# Altium schematic symbol library FPGA_Xilinx_Spartan6.SchLib: 45 symbols (part 1 of 8)
Pins are listed as number, name and electrical type; pins without a type are passive.

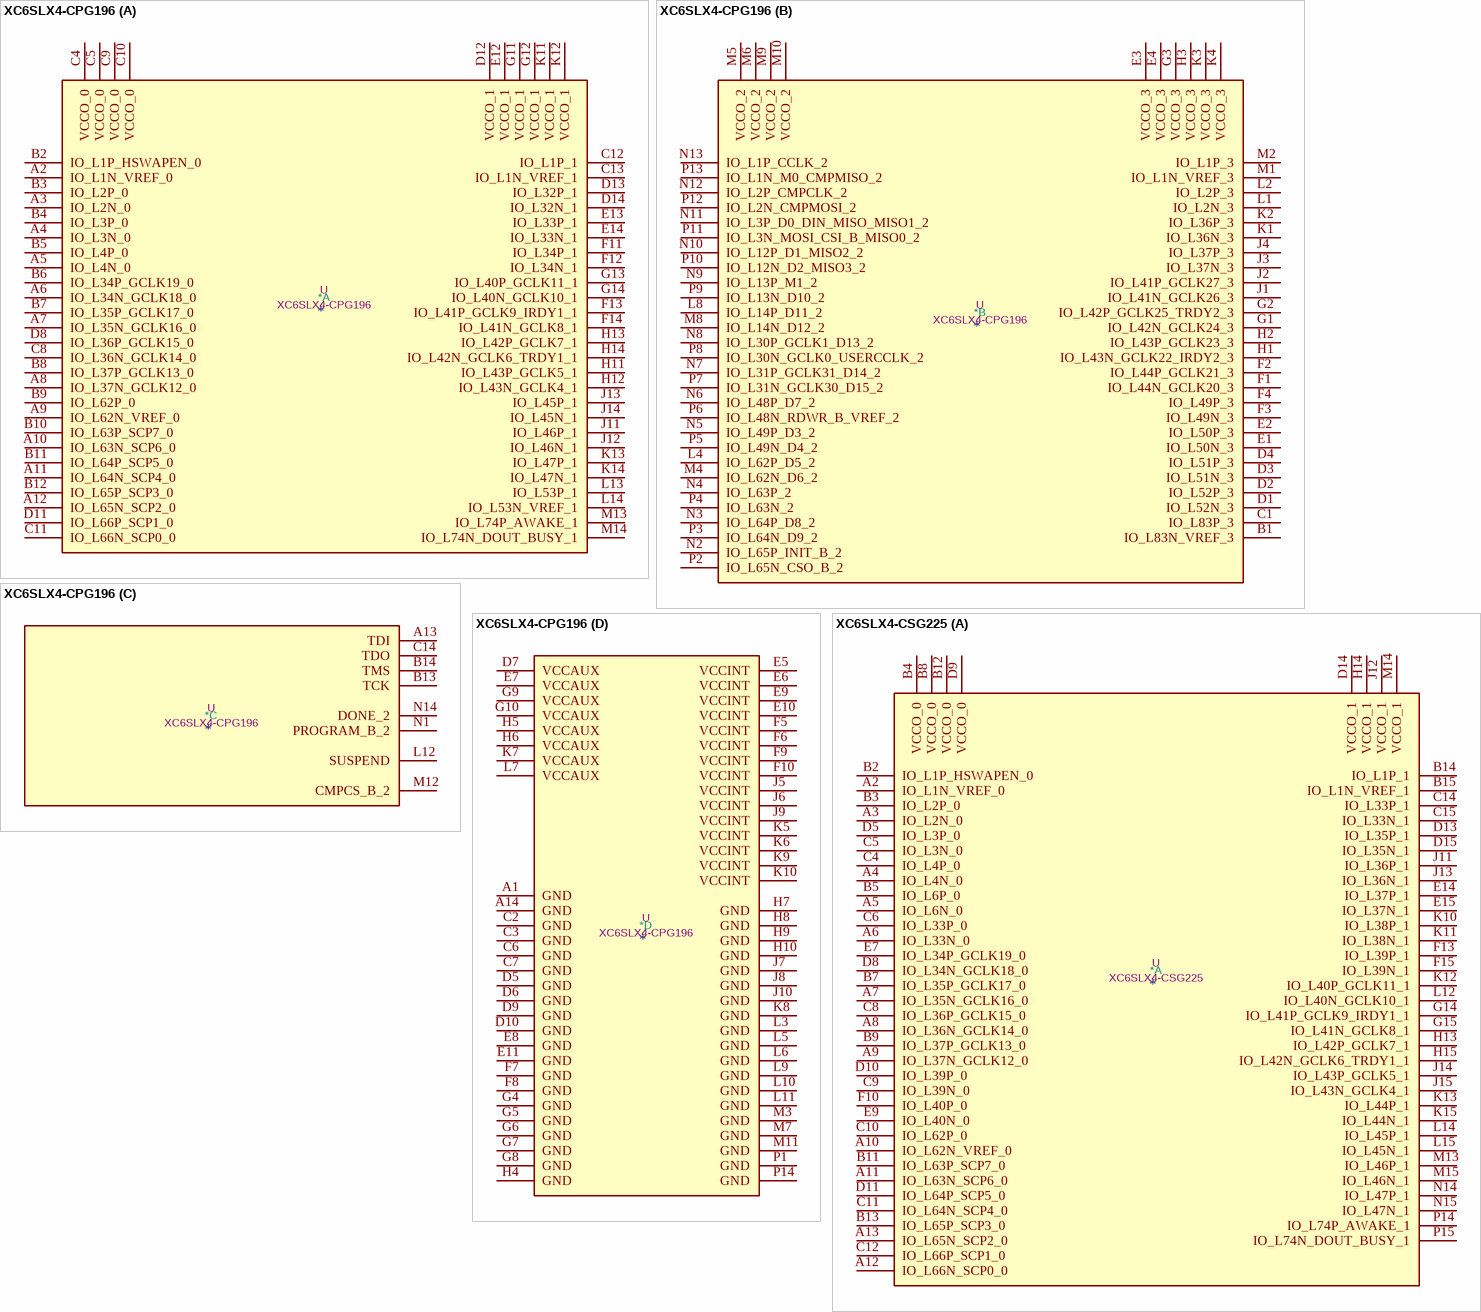
[diagram p0: symbols XC6SLX4-CPG196 to XC6SLX4-CSG225]

## XC6SLX4-CPG196
designator *  value XC6SLX4-CPG196  Reference: U
ki_keywords: FPGA; ki_description: Spartan 6 LX 4 XC6SLX4-CPG196
part A pins: A2 IO_L1N_VREF_0, A3 IO_L2N_0, A4 IO_L3N_0, A5 IO_L4N_0, A6 IO_L34N_GCLK18_0, A7 IO_L35N_GCLK16_0, A8 IO_L37N_GCLK12_0, A9 IO_L62N_VREF_0, A10 IO_L63N_SCP6_0, A11 IO_L64N_SCP4_0, A12 IO_L65N_SCP2_0, B2 IO_L1P_HSWAPEN_0, B3 IO_L2P_0, B4 IO_L3P_0, B5 IO_L4P_0, B6 IO_L34P_GCLK19_0, B7 IO_L35P_GCLK17_0, B8 IO_L37P_GCLK13_0, B9 IO_L62P_0, B10 IO_L63P_SCP7_0, B11 IO_L64P_SCP5_0, B12 IO_L65P_SCP3_0, C4 VCCO_0, C5 VCCO_0, C8 IO_L36N_GCLK14_0, C9 VCCO_0, C10 VCCO_0, C11 IO_L66N_SCP0_0, C12 IO_L1P_1, C13 IO_L1N_VREF_1, D8 IO_L36P_GCLK15_0, D11 IO_L66P_SCP1_0, D12 VCCO_1, D13 IO_L32P_1, D14 IO_L32N_1, E12 VCCO_1, E13 IO_L33P_1, E14 IO_L33N_1, F11 IO_L34P_1, F12 IO_L34N_1, F13 IO_L41P_GCLK9_IRDY1_1, F14 IO_L41N_GCLK8_1, G11 VCCO_1, G12 VCCO_1, G13 IO_L40P_GCLK11_1, G14 IO_L40N_GCLK10_1, H11 IO_L43P_GCLK5_1, H12 IO_L43N_GCLK4_1, H13 IO_L42P_GCLK7_1, H14 IO_L42N_GCLK6_TRDY1_1, J11 IO_L46P_1, J12 IO_L46N_1, J13 IO_L45P_1, J14 IO_L45N_1, K11 VCCO_1, K12 VCCO_1, K13 IO_L47P_1, K14 IO_L47N_1, L13 IO_L53P_1, L14 IO_L53N_VREF_1, M13 IO_L74P_AWAKE_1, M14 IO_L74N_DOUT_BUSY_1
part B pins: B1 IO_L83N_VREF_3, C1 IO_L83P_3, D1 IO_L52N_3, D2 IO_L52P_3, D3 IO_L51N_3, D4 IO_L51P_3, E1 IO_L50N_3, E2 IO_L50P_3, E3 VCCO_3, E4 VCCO_3, F1 IO_L44N_GCLK20_3, F2 IO_L44P_GCLK21_3, F3 IO_L49N_3, F4 IO_L49P_3, G1 IO_L42N_GCLK24_3, G2 IO_L42P_GCLK25_TRDY2_3, G3 VCCO_3, H1 IO_L43N_GCLK22_IRDY2_3, H2 IO_L43P_GCLK23_3, H3 VCCO_3, J1 IO_L41N_GCLK26_3, J2 IO_L41P_GCLK27_3, J3 IO_L37N_3, J4 IO_L37P_3, K1 IO_L36N_3, K2 IO_L36P_3, K3 VCCO_3, K4 VCCO_3, L1 IO_L2N_3, L2 IO_L2P_3, L4 IO_L62P_D5_2, L8 IO_L14P_D11_2, M1 IO_L1N_VREF_3, M2 IO_L1P_3, M4 IO_L62N_D6_2, M5 VCCO_2, M6 VCCO_2, M8 IO_L14N_D12_2, M9 VCCO_2, M10 VCCO_2, N2 IO_L65P_INIT_B_2, N3 IO_L64P_D8_2, N4 IO_L63P_2, N5 IO_L49P_D3_2, N6 IO_L48P_D7_2, N7 IO_L31P_GCLK31_D14_2, N8 IO_L30P_GCLK1_D13_2, N9 IO_L13P_M1_2, N10 IO_L12P_D1_MISO2_2, N11 IO_L3P_D0_DIN_MISO_MISO1_2, N12 IO_L2P_CMPCLK_2, N13 IO_L1P_CCLK_2, P2 IO_L65N_CSO_B_2, P3 IO_L64N_D9_2, P4 IO_L63N_2, P5 IO_L49N_D4_2, P6 IO_L48N_RDWR_B_VREF_2, P7 IO_L31N_GCLK30_D15_2, P8 IO_L30N_GCLK0_USERCCLK_2, P9 IO_L13N_D10_2, P10 IO_L12N_D2_MISO3_2, P11 IO_L3N_MOSI_CSI_B_MISO0_2, P12 IO_L2N_CMPMOSI_2, P13 IO_L1N_M0_CMPMISO_2
part C pins: A13 TDI, B13 TCK, B14 TMS, C14 TDO, L12 SUSPEND, M12 CMPCS_B_2, N1 PROGRAM_B_2, N14 DONE_2
part D pins: A1 GND, A14 GND, C2 GND, C3 GND, C6 GND, C7 GND, D5 GND, D6 GND, D7 VCCAUX, D9 GND, D10 GND, E5 VCCINT, E6 VCCINT, E7 VCCAUX, E8 GND, E9 VCCINT, E10 VCCINT, E11 GND, F5 VCCINT, F6 VCCINT, F7 GND, F8 GND, F9 VCCINT, F10 VCCINT, G4 GND, G5 GND, G6 GND, G7 GND, G8 GND, G9 VCCAUX, G10 VCCAUX, H4 GND, H5 VCCAUX, H6 VCCAUX, H7 GND, H8 GND, H9 GND, H10 GND, J5 VCCINT, J6 VCCINT, J7 GND, J8 GND, J9 VCCINT, J10 GND, K5 VCCINT, K6 VCCINT, K7 VCCAUX, K8 GND, K9 VCCINT, K10 VCCINT, L3 GND, L5 GND, L6 GND, L7 VCCAUX, L9 GND, L10 GND, L11 GND, M3 GND, M7 GND, M11 GND, P1 GND, P14 GND

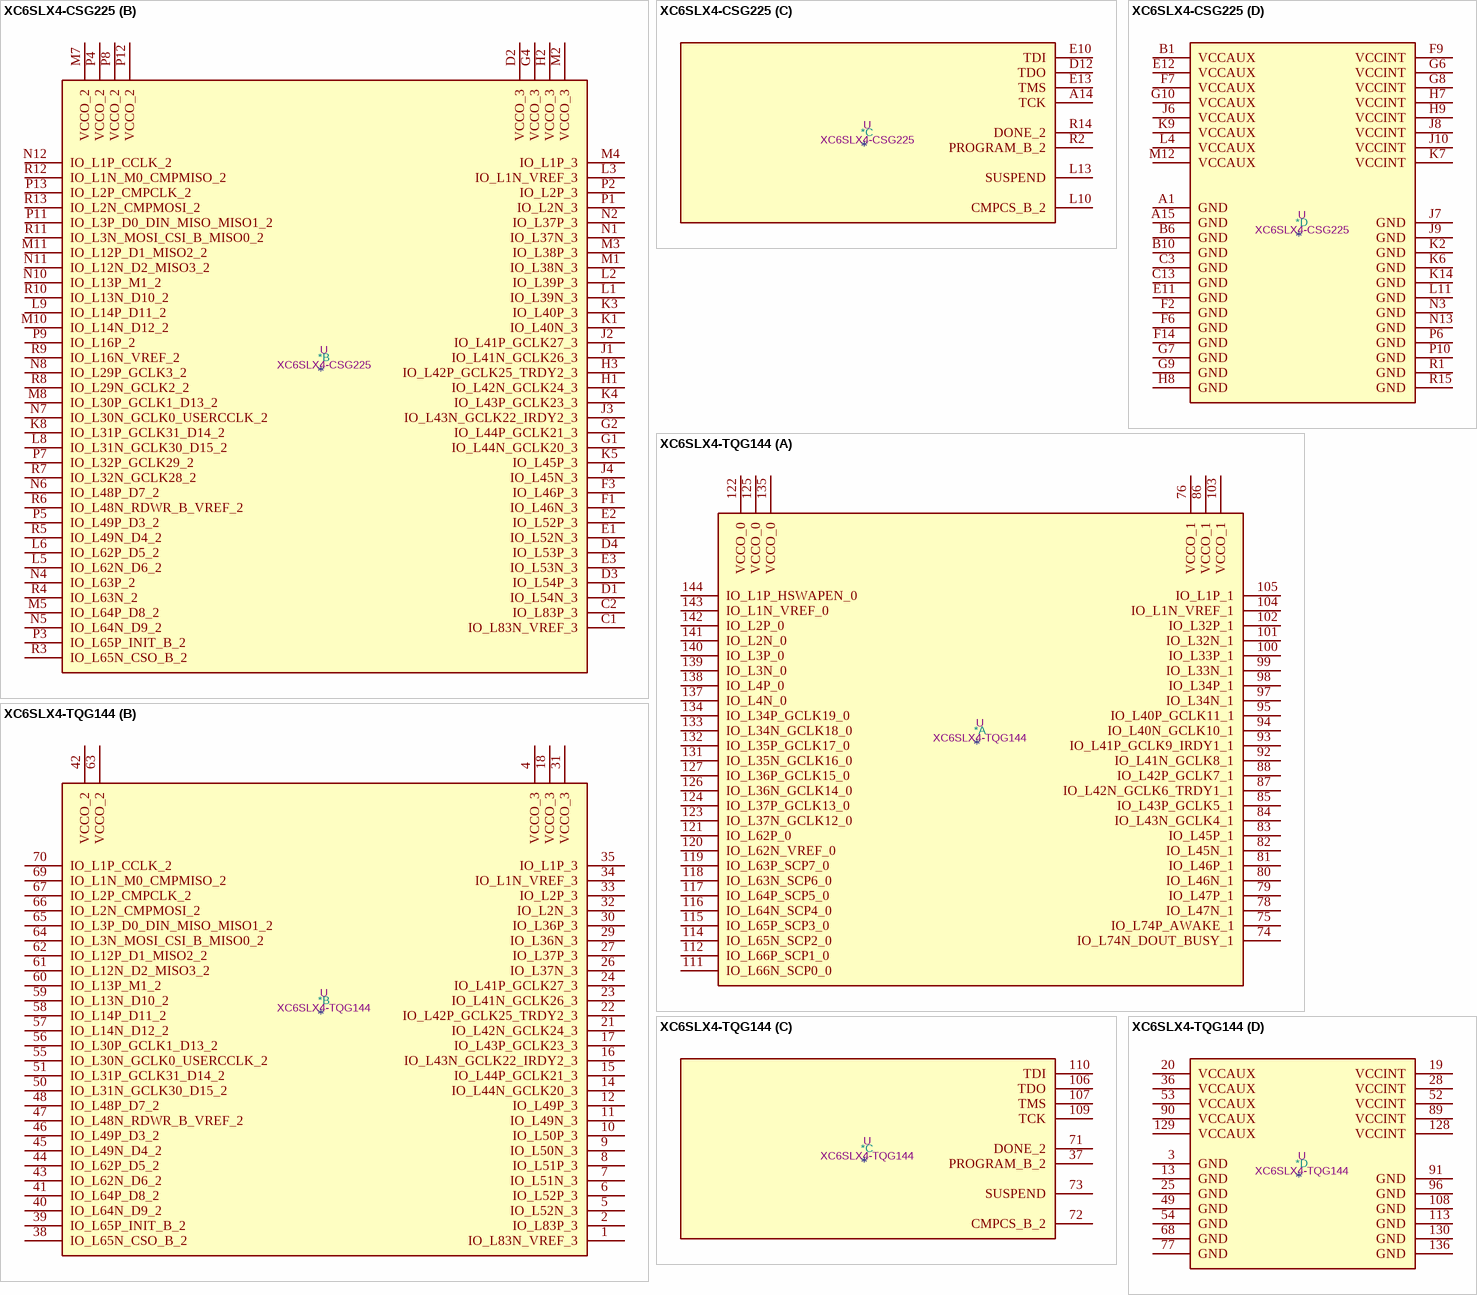
[diagram p1: symbols XC6SLX4-CSG225 to XC6SLX4-TQG144]

## XC6SLX4-CSG225
designator *  value XC6SLX4-CSG225  Reference: U
ki_keywords: FPGA; ki_description: Spartan 6 LX 4 XC6SLX4-CSG225
part A pins: A2 IO_L1N_VREF_0, A3 IO_L2N_0, A4 IO_L4N_0, A5 IO_L6N_0, A6 IO_L33N_0, A7 IO_L35N_GCLK16_0, A8 IO_L36N_GCLK14_0, A9 IO_L37N_GCLK12_0, A10 IO_L62N_VREF_0, A11 IO_L63N_SCP6_0, A12 IO_L66N_SCP0_0, A13 IO_L65N_SCP2_0, B2 IO_L1P_HSWAPEN_0, B3 IO_L2P_0, B4 VCCO_0, B5 IO_L6P_0, B7 IO_L35P_GCLK17_0, B8 VCCO_0, B9 IO_L37P_GCLK13_0, B11 IO_L63P_SCP7_0, B12 VCCO_0, B13 IO_L65P_SCP3_0, B14 IO_L1P_1, B15 IO_L1N_VREF_1, C4 IO_L4P_0, C5 IO_L3N_0, C6 IO_L33P_0, C8 IO_L36P_GCLK15_0, C9 IO_L39N_0, C10 IO_L62P_0, C11 IO_L64N_SCP4_0, C12 IO_L66P_SCP1_0, C14 IO_L33P_1, C15 IO_L33N_1, D5 IO_L3P_0, D8 IO_L34N_GCLK18_0, D9 VCCO_0, D10 IO_L39P_0, D11 IO_L64P_SCP5_0, D13 IO_L35P_1, D14 VCCO_1, D15 IO_L35N_1, E7 IO_L34P_GCLK19_0, E9 IO_L40N_0, E14 IO_L37P_1, E15 IO_L37N_1, F10 IO_L40P_0, F13 IO_L39P_1, F15 IO_L39N_1, G14 IO_L41P_GCLK9_IRDY1_1, G15 IO_L41N_GCLK8_1, H13 IO_L42P_GCLK7_1, H14 VCCO_1, H15 IO_L42N_GCLK6_TRDY1_1, J11 IO_L36P_1, J12 VCCO_1, J13 IO_L36N_1, J14 IO_L43P_GCLK5_1, J15 IO_L43N_GCLK4_1, K10 IO_L38P_1, K11 IO_L38N_1, K12 IO_L40P_GCLK11_1, K13 IO_L44P_1, K15 IO_L44N_1, L12 IO_L40N_GCLK10_1, L14 IO_L45P_1, L15 IO_L45N_1, M13 IO_L46P_1, M14 VCCO_1, M15 IO_L46N_1, N14 IO_L47P_1, N15 IO_L47N_1, P14 IO_L74P_AWAKE_1, P15 IO_L74N_DOUT_BUSY_1
part B pins: C1 IO_L83N_VREF_3, C2 IO_L83P_3, D1 IO_L54N_3, D2 VCCO_3, D3 IO_L54P_3, D4 IO_L53P_3, E1 IO_L52N_3, E2 IO_L52P_3, E3 IO_L53N_3, F1 IO_L46N_3, F3 IO_L46P_3, G1 IO_L44N_GCLK20_3, G2 IO_L44P_GCLK21_3, G4 VCCO_3, H1 IO_L42N_GCLK24_3, H2 VCCO_3, H3 IO_L42P_GCLK25_TRDY2_3, J1 IO_L41N_GCLK26_3, J2 IO_L41P_GCLK27_3, J3 IO_L43N_GCLK22_IRDY2_3, J4 IO_L45N_3, K1 IO_L40N_3, K3 IO_L40P_3, K4 IO_L43P_GCLK23_3, K5 IO_L45P_3, K8 IO_L31P_GCLK31_D14_2, L1 IO_L39N_3, L2 IO_L39P_3, L3 IO_L1N_VREF_3, L5 IO_L62N_D6_2, L6 IO_L62P_D5_2, L8 IO_L31N_GCLK30_D15_2, L9 IO_L14P_D11_2, M1 IO_L38N_3, M2 VCCO_3, M3 IO_L38P_3, M4 IO_L1P_3, M5 IO_L64P_D8_2, M7 VCCO_2, M8 IO_L30P_GCLK1_D13_2, M10 IO_L14N_D12_2, M11 IO_L12P_D1_MISO2_2, N1 IO_L37N_3, N2 IO_L37P_3, N4 IO_L63P_2, N5 IO_L64N_D9_2, N6 IO_L48P_D7_2, N7 IO_L30N_GCLK0_USERCCLK_2, N8 IO_L29P_GCLK3_2, N10 IO_L13P_M1_2, N11 IO_L12N_D2_MISO3_2, N12 IO_L1P_CCLK_2, P1 IO_L2N_3, P2 IO_L2P_3, P3 IO_L65P_INIT_B_2, P4 VCCO_2, P5 IO_L49P_D3_2, P7 IO_L32P_GCLK29_2, P8 VCCO_2, P9 IO_L16P_2, P11 IO_L3P_D0_DIN_MISO_MISO1_2, P12 VCCO_2, P13 IO_L2P_CMPCLK_2, R3 IO_L65N_CSO_B_2, R4 IO_L63N_2, R5 IO_L49N_D4_2, R6 IO_L48N_RDWR_B_VREF_2, R7 IO_L32N_GCLK28_2, R8 IO_L29N_GCLK2_2, R9 IO_L16N_VREF_2, R10 IO_L13N_D10_2, R11 IO_L3N_MOSI_CSI_B_MISO0_2, R12 IO_L1N_M0_CMPMISO_2, R13 IO_L2N_CMPMOSI_2
part C pins: A14 TCK, D12 TDO, E10 TDI, E13 TMS, L10 CMPCS_B_2, L13 SUSPEND, R2 PROGRAM_B_2, R14 DONE_2
part D pins: A1 GND, A15 GND, B1 VCCAUX, B6 GND, B10 GND, C3 GND, C13 GND, E11 GND, E12 VCCAUX, F2 GND, F6 GND, F7 VCCAUX, F9 VCCINT, F14 GND, G6 VCCINT, G7 GND, G8 VCCINT, G9 GND, G10 VCCAUX, H7 VCCINT, H8 GND, H9 VCCINT, J6 VCCAUX, J7 GND, J8 VCCINT, J9 GND, J10 VCCINT, K2 GND, K6 GND, K7 VCCINT, K9 VCCAUX, K14 GND, L4 VCCAUX, L11 GND, M12 VCCAUX, N3 GND, N13 GND, P6 GND, P10 GND, R1 GND, R15 GND

## XC6SLX4-TQG144
designator *  value XC6SLX4-TQG144  Reference: U
ki_keywords: FPGA; ki_description: Spartan 6 LX 4 XC6SLX4-TQG144
part A pins: 74 IO_L74N_DOUT_BUSY_1, 75 IO_L74P_AWAKE_1, 76 VCCO_1, 78 IO_L47N_1, 79 IO_L47P_1, 80 IO_L46N_1, 81 IO_L46P_1, 82 IO_L45N_1, 83 IO_L45P_1, 84 IO_L43N_GCLK4_1, 85 IO_L43P_GCLK5_1, 86 VCCO_1, 87 IO_L42N_GCLK6_TRDY1_1, 88 IO_L42P_GCLK7_1, 92 IO_L41N_GCLK8_1, 93 IO_L41P_GCLK9_IRDY1_1, 94 IO_L40N_GCLK10_1, 95 IO_L40P_GCLK11_1, 97 IO_L34N_1, 98 IO_L34P_1, 99 IO_L33N_1, 100 IO_L33P_1, 101 IO_L32N_1, 102 IO_L32P_1, 103 VCCO_1, 104 IO_L1N_VREF_1, 105 IO_L1P_1, 111 IO_L66N_SCP0_0, 112 IO_L66P_SCP1_0, 114 IO_L65N_SCP2_0, 115 IO_L65P_SCP3_0, 116 IO_L64N_SCP4_0, 117 IO_L64P_SCP5_0, 118 IO_L63N_SCP6_0, 119 IO_L63P_SCP7_0, 120 IO_L62N_VREF_0, 121 IO_L62P_0, 122 VCCO_0, 123 IO_L37N_GCLK12_0, 124 IO_L37P_GCLK13_0, 125 VCCO_0, 126 IO_L36N_GCLK14_0, 127 IO_L36P_GCLK15_0, 131 IO_L35N_GCLK16_0, 132 IO_L35P_GCLK17_0, 133 IO_L34N_GCLK18_0, 134 IO_L34P_GCLK19_0, 135 VCCO_0, 137 IO_L4N_0, 138 IO_L4P_0, 139 IO_L3N_0, 140 IO_L3P_0, 141 IO_L2N_0, 142 IO_L2P_0, 143 IO_L1N_VREF_0, 144 IO_L1P_HSWAPEN_0
part B pins: 1 IO_L83N_VREF_3, 2 IO_L83P_3, 4 VCCO_3, 5 IO_L52N_3, 6 IO_L52P_3, 7 IO_L51N_3, 8 IO_L51P_3, 9 IO_L50N_3, 10 IO_L50P_3, 11 IO_L49N_3, 12 IO_L49P_3, 14 IO_L44N_GCLK20_3, 15 IO_L44P_GCLK21_3, 16 IO_L43N_GCLK22_IRDY2_3, 17 IO_L43P_GCLK23_3, 18 VCCO_3, 21 IO_L42N_GCLK24_3, 22 IO_L42P_GCLK25_TRDY2_3, 23 IO_L41N_GCLK26_3, 24 IO_L41P_GCLK27_3, 26 IO_L37N_3, 27 IO_L37P_3, 29 IO_L36N_3, 30 IO_L36P_3, 31 VCCO_3, 32 IO_L2N_3, 33 IO_L2P_3, 34 IO_L1N_VREF_3, 35 IO_L1P_3, 38 IO_L65N_CSO_B_2, 39 IO_L65P_INIT_B_2, 40 IO_L64N_D9_2, 41 IO_L64P_D8_2, 42 VCCO_2, 43 IO_L62N_D6_2, 44 IO_L62P_D5_2, 45 IO_L49N_D4_2, 46 IO_L49P_D3_2, 47 IO_L48N_RDWR_B_VREF_2, 48 IO_L48P_D7_2, 50 IO_L31N_GCLK30_D15_2, 51 IO_L31P_GCLK31_D14_2, 55 IO_L30N_GCLK0_USERCCLK_2, 56 IO_L30P_GCLK1_D13_2, 57 IO_L14N_D12_2, 58 IO_L14P_D11_2, 59 IO_L13N_D10_2, 60 IO_L13P_M1_2, 61 IO_L12N_D2_MISO3_2, 62 IO_L12P_D1_MISO2_2, 63 VCCO_2, 64 IO_L3N_MOSI_CSI_B_MISO0_2, 65 IO_L3P_D0_DIN_MISO_MISO1_2, 66 IO_L2N_CMPMOSI_2, 67 IO_L2P_CMPCLK_2, 69 IO_L1N_M0_CMPMISO_2, 70 IO_L1P_CCLK_2
part C pins: 37 PROGRAM_B_2, 71 DONE_2, 72 CMPCS_B_2, 73 SUSPEND, 106 TDO, 107 TMS, 109 TCK, 110 TDI
part D pins: 3 GND, 13 GND, 19 VCCINT, 20 VCCAUX, 25 GND, 28 VCCINT, 36 VCCAUX, 49 GND, 52 VCCINT, 53 VCCAUX, 54 GND, 68 GND, 77 GND, 89 VCCINT, 90 VCCAUX, 91 GND, 96 GND, 108 GND, 113 GND, 128 VCCINT, 129 VCCAUX, 130 GND, 136 GND

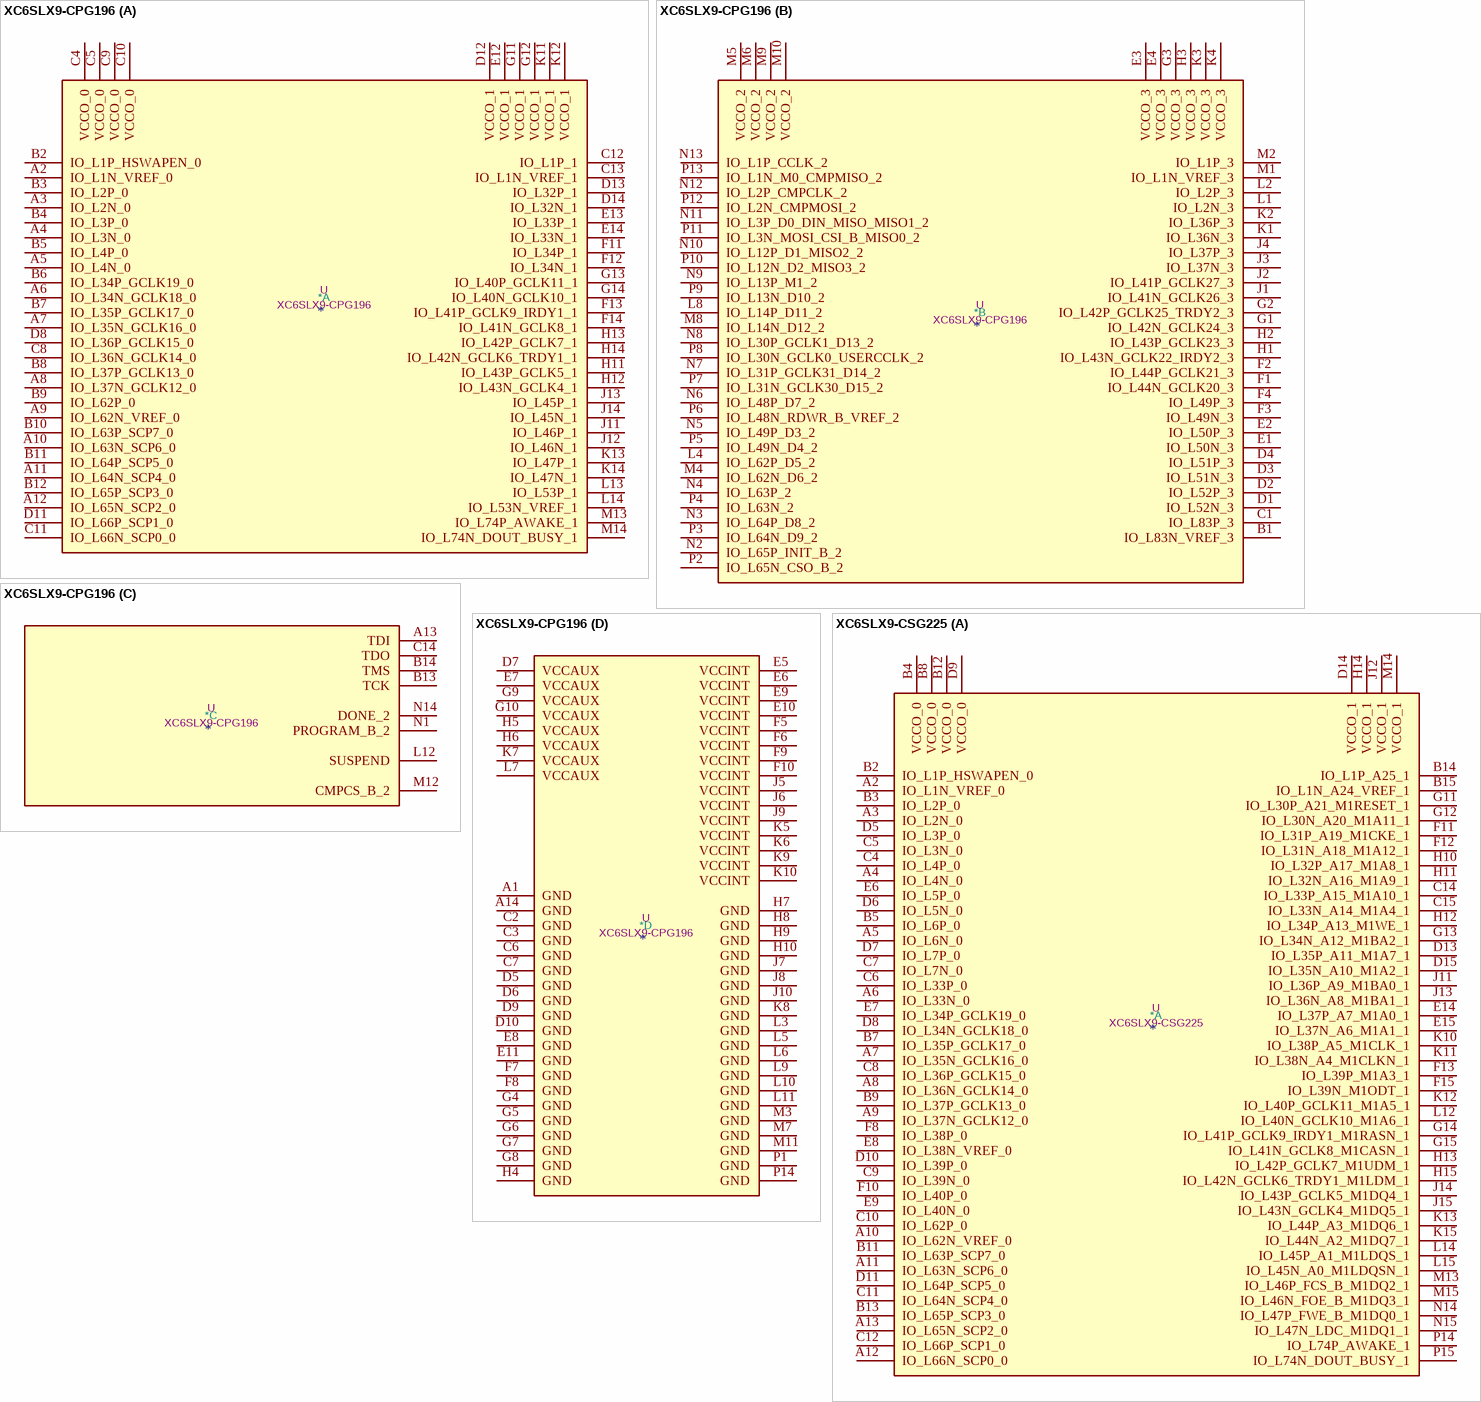
[diagram p2: symbols XC6SLX9-CPG196 to XC6SLX9-CSG225]

## XC6SLX9-CPG196
designator *  value XC6SLX9-CPG196  Reference: U
ki_keywords: FPGA; ki_description: Spartan 6 LX 9 XC6SLX9-CPG196
part A pins: A2 IO_L1N_VREF_0, A3 IO_L2N_0, A4 IO_L3N_0, A5 IO_L4N_0, A6 IO_L34N_GCLK18_0, A7 IO_L35N_GCLK16_0, A8 IO_L37N_GCLK12_0, A9 IO_L62N_VREF_0, A10 IO_L63N_SCP6_0, A11 IO_L64N_SCP4_0, A12 IO_L65N_SCP2_0, B2 IO_L1P_HSWAPEN_0, B3 IO_L2P_0, B4 IO_L3P_0, B5 IO_L4P_0, B6 IO_L34P_GCLK19_0, B7 IO_L35P_GCLK17_0, B8 IO_L37P_GCLK13_0, B9 IO_L62P_0, B10 IO_L63P_SCP7_0, B11 IO_L64P_SCP5_0, B12 IO_L65P_SCP3_0, C4 VCCO_0, C5 VCCO_0, C8 IO_L36N_GCLK14_0, C9 VCCO_0, C10 VCCO_0, C11 IO_L66N_SCP0_0, C12 IO_L1P_1, C13 IO_L1N_VREF_1, D8 IO_L36P_GCLK15_0, D11 IO_L66P_SCP1_0, D12 VCCO_1, D13 IO_L32P_1, D14 IO_L32N_1, E12 VCCO_1, E13 IO_L33P_1, E14 IO_L33N_1, F11 IO_L34P_1, F12 IO_L34N_1, F13 IO_L41P_GCLK9_IRDY1_1, F14 IO_L41N_GCLK8_1, G11 VCCO_1, G12 VCCO_1, G13 IO_L40P_GCLK11_1, G14 IO_L40N_GCLK10_1, H11 IO_L43P_GCLK5_1, H12 IO_L43N_GCLK4_1, H13 IO_L42P_GCLK7_1, H14 IO_L42N_GCLK6_TRDY1_1, J11 IO_L46P_1, J12 IO_L46N_1, J13 IO_L45P_1, J14 IO_L45N_1, K11 VCCO_1, K12 VCCO_1, K13 IO_L47P_1, K14 IO_L47N_1, L13 IO_L53P_1, L14 IO_L53N_VREF_1, M13 IO_L74P_AWAKE_1, M14 IO_L74N_DOUT_BUSY_1
part B pins: B1 IO_L83N_VREF_3, C1 IO_L83P_3, D1 IO_L52N_3, D2 IO_L52P_3, D3 IO_L51N_3, D4 IO_L51P_3, E1 IO_L50N_3, E2 IO_L50P_3, E3 VCCO_3, E4 VCCO_3, F1 IO_L44N_GCLK20_3, F2 IO_L44P_GCLK21_3, F3 IO_L49N_3, F4 IO_L49P_3, G1 IO_L42N_GCLK24_3, G2 IO_L42P_GCLK25_TRDY2_3, G3 VCCO_3, H1 IO_L43N_GCLK22_IRDY2_3, H2 IO_L43P_GCLK23_3, H3 VCCO_3, J1 IO_L41N_GCLK26_3, J2 IO_L41P_GCLK27_3, J3 IO_L37N_3, J4 IO_L37P_3, K1 IO_L36N_3, K2 IO_L36P_3, K3 VCCO_3, K4 VCCO_3, L1 IO_L2N_3, L2 IO_L2P_3, L4 IO_L62P_D5_2, L8 IO_L14P_D11_2, M1 IO_L1N_VREF_3, M2 IO_L1P_3, M4 IO_L62N_D6_2, M5 VCCO_2, M6 VCCO_2, M8 IO_L14N_D12_2, M9 VCCO_2, M10 VCCO_2, N2 IO_L65P_INIT_B_2, N3 IO_L64P_D8_2, N4 IO_L63P_2, N5 IO_L49P_D3_2, N6 IO_L48P_D7_2, N7 IO_L31P_GCLK31_D14_2, N8 IO_L30P_GCLK1_D13_2, N9 IO_L13P_M1_2, N10 IO_L12P_D1_MISO2_2, N11 IO_L3P_D0_DIN_MISO_MISO1_2, N12 IO_L2P_CMPCLK_2, N13 IO_L1P_CCLK_2, P2 IO_L65N_CSO_B_2, P3 IO_L64N_D9_2, P4 IO_L63N_2, P5 IO_L49N_D4_2, P6 IO_L48N_RDWR_B_VREF_2, P7 IO_L31N_GCLK30_D15_2, P8 IO_L30N_GCLK0_USERCCLK_2, P9 IO_L13N_D10_2, P10 IO_L12N_D2_MISO3_2, P11 IO_L3N_MOSI_CSI_B_MISO0_2, P12 IO_L2N_CMPMOSI_2, P13 IO_L1N_M0_CMPMISO_2
part C pins: A13 TDI, B13 TCK, B14 TMS, C14 TDO, L12 SUSPEND, M12 CMPCS_B_2, N1 PROGRAM_B_2, N14 DONE_2
part D pins: A1 GND, A14 GND, C2 GND, C3 GND, C6 GND, C7 GND, D5 GND, D6 GND, D7 VCCAUX, D9 GND, D10 GND, E5 VCCINT, E6 VCCINT, E7 VCCAUX, E8 GND, E9 VCCINT, E10 VCCINT, E11 GND, F5 VCCINT, F6 VCCINT, F7 GND, F8 GND, F9 VCCINT, F10 VCCINT, G4 GND, G5 GND, G6 GND, G7 GND, G8 GND, G9 VCCAUX, G10 VCCAUX, H4 GND, H5 VCCAUX, H6 VCCAUX, H7 GND, H8 GND, H9 GND, H10 GND, J5 VCCINT, J6 VCCINT, J7 GND, J8 GND, J9 VCCINT, J10 GND, K5 VCCINT, K6 VCCINT, K7 VCCAUX, K8 GND, K9 VCCINT, K10 VCCINT, L3 GND, L5 GND, L6 GND, L7 VCCAUX, L9 GND, L10 GND, L11 GND, M3 GND, M7 GND, M11 GND, P1 GND, P14 GND

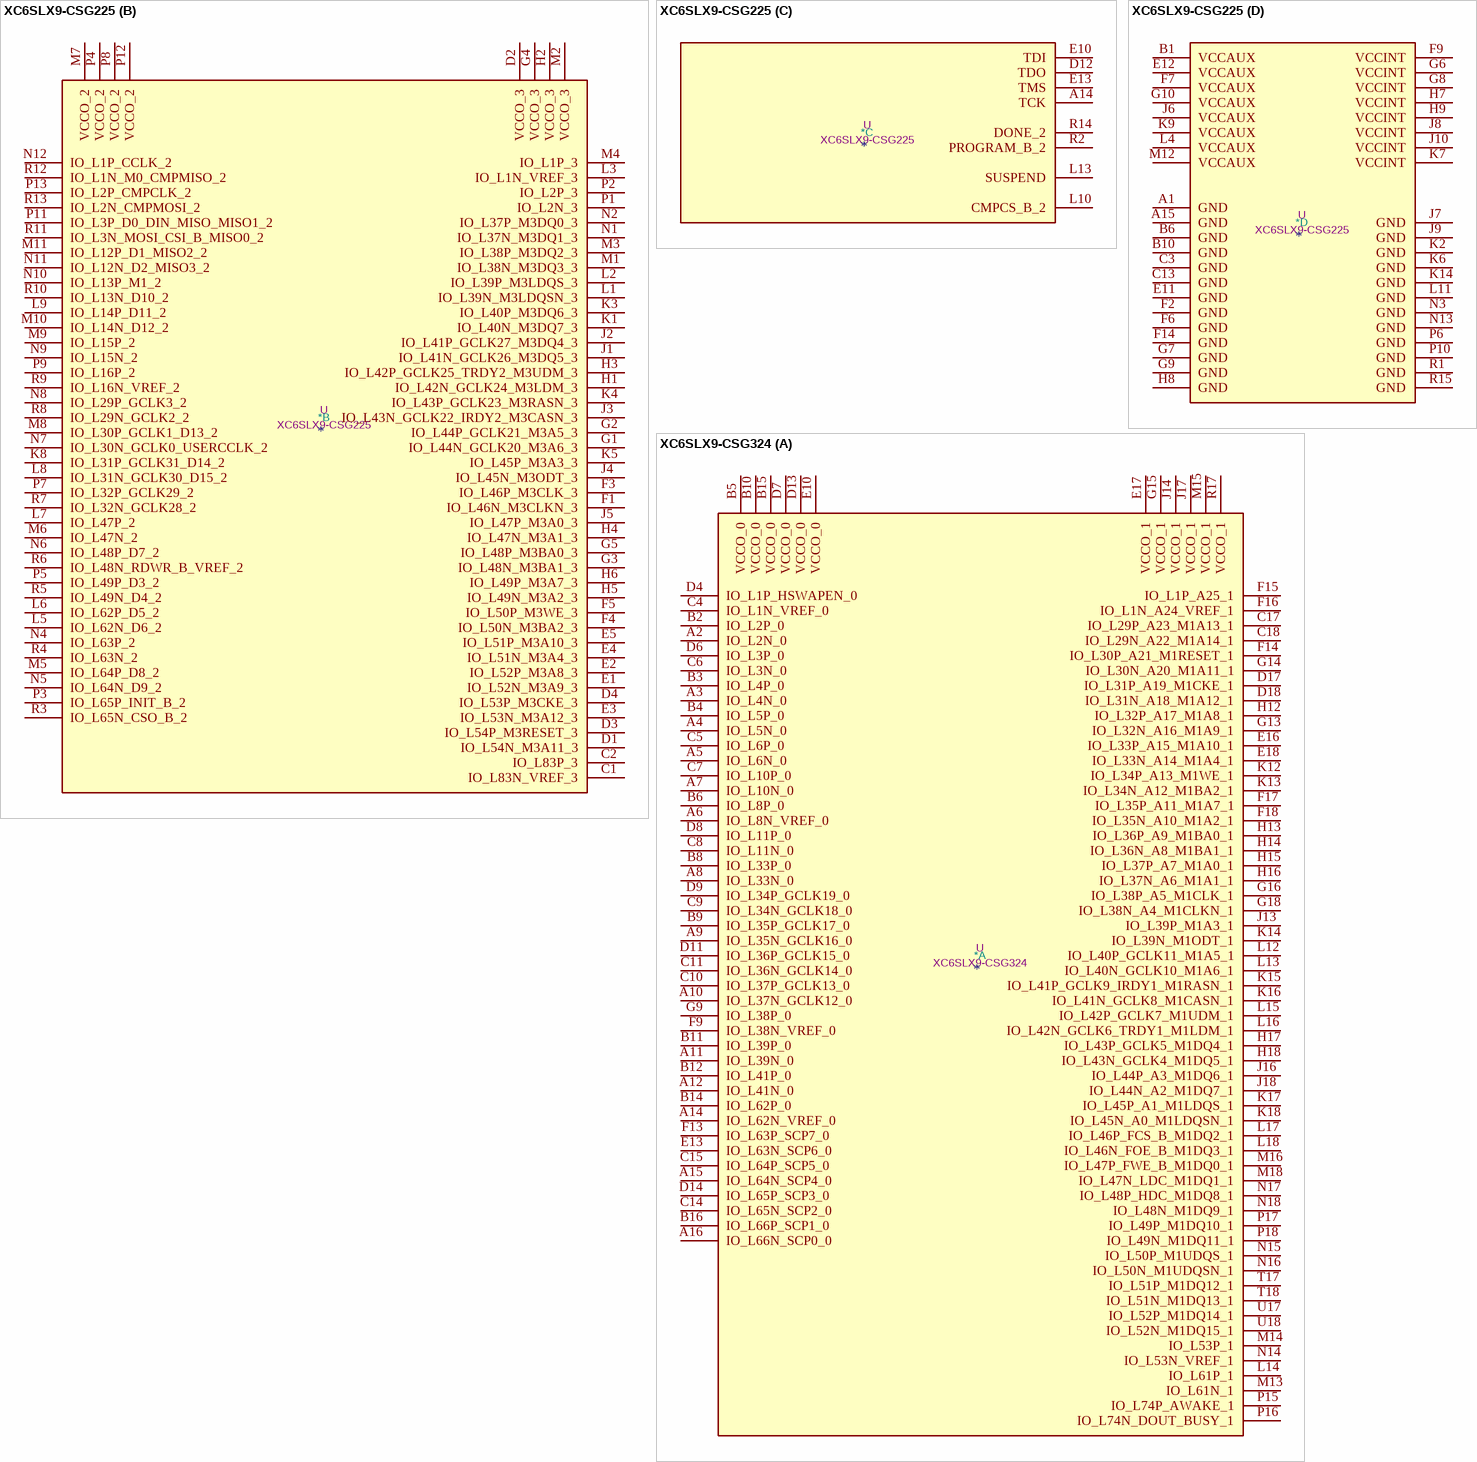
[diagram p3: symbols XC6SLX9-CSG225 to XC6SLX9-CSG324]

## XC6SLX9-CSG225
designator *  value XC6SLX9-CSG225  Reference: U
ki_keywords: FPGA; ki_description: Spartan 6 LX 9 XC6SLX9-CSG225
part A pins: A2 IO_L1N_VREF_0, A3 IO_L2N_0, A4 IO_L4N_0, A5 IO_L6N_0, A6 IO_L33N_0, A7 IO_L35N_GCLK16_0, A8 IO_L36N_GCLK14_0, A9 IO_L37N_GCLK12_0, A10 IO_L62N_VREF_0, A11 IO_L63N_SCP6_0, A12 IO_L66N_SCP0_0, A13 IO_L65N_SCP2_0, B2 IO_L1P_HSWAPEN_0, B3 IO_L2P_0, B4 VCCO_0, B5 IO_L6P_0, B7 IO_L35P_GCLK17_0, B8 VCCO_0, B9 IO_L37P_GCLK13_0, B11 IO_L63P_SCP7_0, B12 VCCO_0, B13 IO_L65P_SCP3_0, B14 IO_L1P_A25_1, B15 IO_L1N_A24_VREF_1, C4 IO_L4P_0, C5 IO_L3N_0, C6 IO_L33P_0, C7 IO_L7N_0, C8 IO_L36P_GCLK15_0, C9 IO_L39N_0, C10 IO_L62P_0, C11 IO_L64N_SCP4_0, C12 IO_L66P_SCP1_0, C14 IO_L33P_A15_M1A10_1, C15 IO_L33N_A14_M1A4_1, D5 IO_L3P_0, D6 IO_L5N_0, D7 IO_L7P_0, D8 IO_L34N_GCLK18_0, D9 VCCO_0, D10 IO_L39P_0, D11 IO_L64P_SCP5_0, D13 IO_L35P_A11_M1A7_1, D14 VCCO_1, D15 IO_L35N_A10_M1A2_1, E6 IO_L5P_0, E7 IO_L34P_GCLK19_0, E8 IO_L38N_VREF_0, E9 IO_L40N_0, E14 IO_L37P_A7_M1A0_1, E15 IO_L37N_A6_M1A1_1, F8 IO_L38P_0, F10 IO_L40P_0, F11 IO_L31P_A19_M1CKE_1, F12 IO_L31N_A18_M1A12_1, F13 IO_L39P_M1A3_1, F15 IO_L39N_M1ODT_1, G11 IO_L30P_A21_M1RESET_1, G12 IO_L30N_A20_M1A11_1, G13 IO_L34N_A12_M1BA2_1, G14 IO_L41P_GCLK9_IRDY1_M1RASN_1, G15 IO_L41N_GCLK8_M1CASN_1, H10 IO_L32P_A17_M1A8_1, H11 IO_L32N_A16_M1A9_1, H12 IO_L34P_A13_M1WE_1, H13 IO_L42P_GCLK7_M1UDM_1, H14 VCCO_1, H15 IO_L42N_GCLK6_TRDY1_M1LDM_1, J11 IO_L36P_A9_M1BA0_1, J12 VCCO_1, J13 IO_L36N_A8_M1BA1_1, J14 IO_L43P_GCLK5_M1DQ4_1, J15 IO_L43N_GCLK4_M1DQ5_1, K10 IO_L38P_A5_M1CLK_1, K11 IO_L38N_A4_M1CLKN_1, K12 IO_L40P_GCLK11_M1A5_1, K13 IO_L44P_A3_M1DQ6_1, K15 IO_L44N_A2_M1DQ7_1, L12 IO_L40N_GCLK10_M1A6_1, L14 IO_L45P_A1_M1LDQS_1, L15 IO_L45N_A0_M1LDQSN_1, M13 IO_L46P_FCS_B_M1DQ2_1, M14 VCCO_1, M15 IO_L46N_FOE_B_M1DQ3_1, N14 IO_L47P_FWE_B_M1DQ0_1, N15 IO_L47N_LDC_M1DQ1_1, P14 IO_L74P_AWAKE_1, P15 IO_L74N_DOUT_BUSY_1
part B pins: C1 IO_L83N_VREF_3, C2 IO_L83P_3, D1 IO_L54N_M3A11_3, D2 VCCO_3, D3 IO_L54P_M3RESET_3, D4 IO_L53P_M3CKE_3, E1 IO_L52N_M3A9_3, E2 IO_L52P_M3A8_3, E3 IO_L53N_M3A12_3, E4 IO_L51N_M3A4_3, E5 IO_L51P_M3A10_3, F1 IO_L46N_M3CLKN_3, F3 IO_L46P_M3CLK_3, F4 IO_L50N_M3BA2_3, F5 IO_L50P_M3WE_3, G1 IO_L44N_GCLK20_M3A6_3, G2 IO_L44P_GCLK21_M3A5_3, G3 IO_L48N_M3BA1_3, G4 VCCO_3, G5 IO_L48P_M3BA0_3, H1 IO_L42N_GCLK24_M3LDM_3, H2 VCCO_3, H3 IO_L42P_GCLK25_TRDY2_M3UDM_3, H4 IO_L47N_M3A1_3, H5 IO_L49N_M3A2_3, H6 IO_L49P_M3A7_3, J1 IO_L41N_GCLK26_M3DQ5_3, J2 IO_L41P_GCLK27_M3DQ4_3, J3 IO_L43N_GCLK22_IRDY2_M3CASN_3, J4 IO_L45N_M3ODT_3, J5 IO_L47P_M3A0_3, K1 IO_L40N_M3DQ7_3, K3 IO_L40P_M3DQ6_3, K4 IO_L43P_GCLK23_M3RASN_3, K5 IO_L45P_M3A3_3, K8 IO_L31P_GCLK31_D14_2, L1 IO_L39N_M3LDQSN_3, L2 IO_L39P_M3LDQS_3, L3 IO_L1N_VREF_3, L5 IO_L62N_D6_2, L6 IO_L62P_D5_2, L7 IO_L47P_2, L8 IO_L31N_GCLK30_D15_2, L9 IO_L14P_D11_2, M1 IO_L38N_M3DQ3_3, M2 VCCO_3, M3 IO_L38P_M3DQ2_3, M4 IO_L1P_3, M5 IO_L64P_D8_2, M6 IO_L47N_2, M7 VCCO_2, M8 IO_L30P_GCLK1_D13_2, M9 IO_L15P_2, M10 IO_L14N_D12_2, M11 IO_L12P_D1_MISO2_2, N1 IO_L37N_M3DQ1_3, N2 IO_L37P_M3DQ0_3, N4 IO_L63P_2, N5 IO_L64N_D9_2, N6 IO_L48P_D7_2, N7 IO_L30N_GCLK0_USERCCLK_2, N8 IO_L29P_GCLK3_2, N9 IO_L15N_2, N10 IO_L13P_M1_2, N11 IO_L12N_D2_MISO3_2, N12 IO_L1P_CCLK_2, P1 IO_L2N_3, P2 IO_L2P_3, P3 IO_L65P_INIT_B_2, P4 VCCO_2, P5 IO_L49P_D3_2, P7 IO_L32P_GCLK29_2, P8 VCCO_2, P9 IO_L16P_2, P11 IO_L3P_D0_DIN_MISO_MISO1_2, P12 VCCO_2, P13 IO_L2P_CMPCLK_2, R3 IO_L65N_CSO_B_2, R4 IO_L63N_2, R5 IO_L49N_D4_2, R6 IO_L48N_RDWR_B_VREF_2, R7 IO_L32N_GCLK28_2, R8 IO_L29N_GCLK2_2, R9 IO_L16N_VREF_2, R10 IO_L13N_D10_2, R11 IO_L3N_MOSI_CSI_B_MISO0_2, R12 IO_L1N_M0_CMPMISO_2, R13 IO_L2N_CMPMOSI_2
part C pins: A14 TCK, D12 TDO, E10 TDI, E13 TMS, L10 CMPCS_B_2, L13 SUSPEND, R2 PROGRAM_B_2, R14 DONE_2
part D pins: A1 GND, A15 GND, B1 VCCAUX, B6 GND, B10 GND, C3 GND, C13 GND, E11 GND, E12 VCCAUX, F2 GND, F6 GND, F7 VCCAUX, F9 VCCINT, F14 GND, G6 VCCINT, G7 GND, G8 VCCINT, G9 GND, G10 VCCAUX, H7 VCCINT, H8 GND, H9 VCCINT, J6 VCCAUX, J7 GND, J8 VCCINT, J9 GND, J10 VCCINT, K2 GND, K6 GND, K7 VCCINT, K9 VCCAUX, K14 GND, L4 VCCAUX, L11 GND, M12 VCCAUX, N3 GND, N13 GND, P6 GND, P10 GND, R1 GND, R15 GND

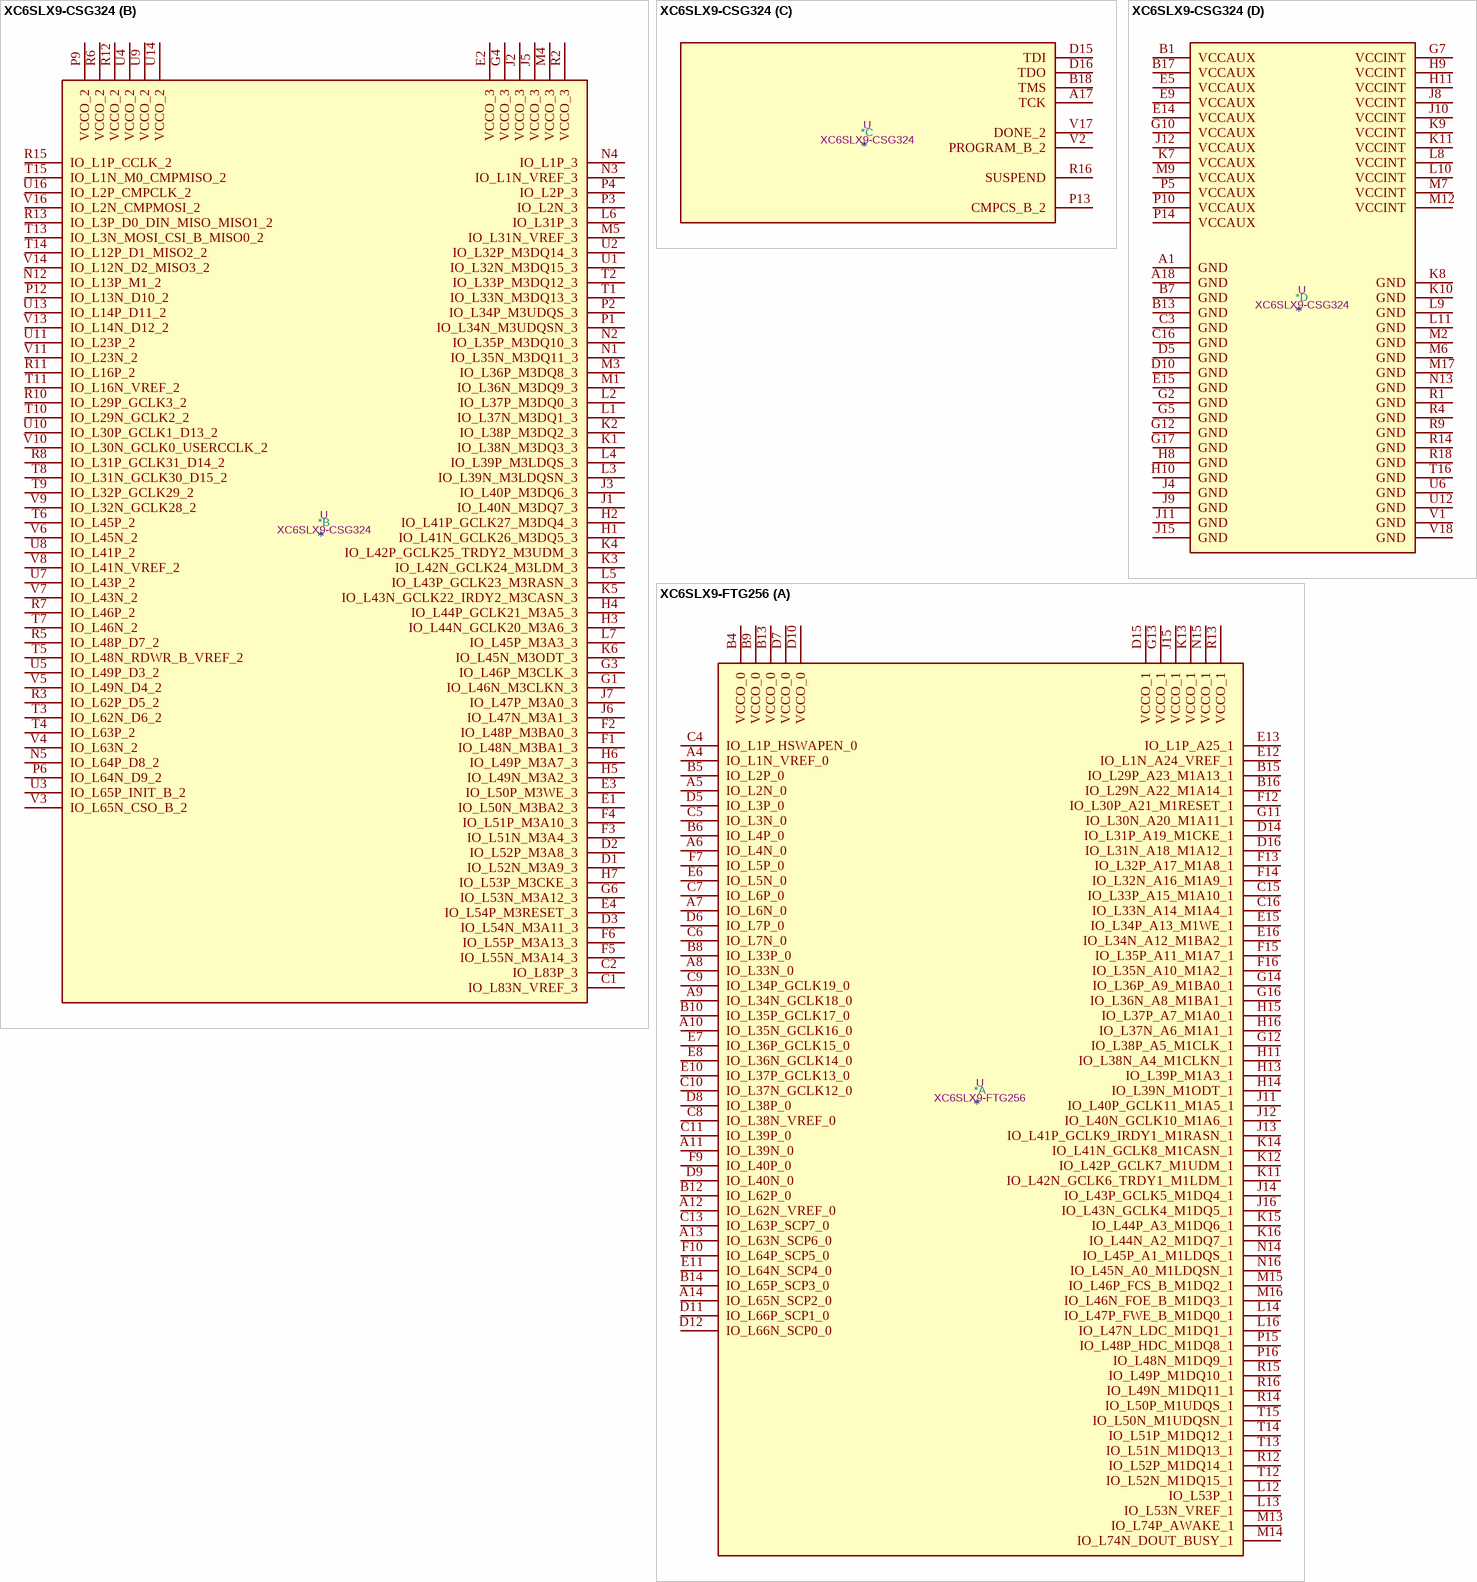
[diagram p4: symbols XC6SLX9-CSG324 to XC6SLX9-FTG256]

## XC6SLX9-CSG324
designator *  value XC6SLX9-CSG324  Reference: U
ki_keywords: FPGA; ki_description: Spartan 6 LX 9 XC6SLX9-CSG324
part A pins: A2 IO_L2N_0, A3 IO_L4N_0, A4 IO_L5N_0, A5 IO_L6N_0, A6 IO_L8N_VREF_0, A7 IO_L10N_0, A8 IO_L33N_0, A9 IO_L35N_GCLK16_0, A10 IO_L37N_GCLK12_0, A11 IO_L39N_0, A12 IO_L41N_0, A14 IO_L62N_VREF_0, A15 IO_L64N_SCP4_0, A16 IO_L66N_SCP0_0, B2 IO_L2P_0, B3 IO_L4P_0, B4 IO_L5P_0, B5 VCCO_0, B6 IO_L8P_0, B8 IO_L33P_0, B9 IO_L35P_GCLK17_0, B10 VCCO_0, B11 IO_L39P_0, B12 IO_L41P_0, B14 IO_L62P_0, B15 VCCO_0, B16 IO_L66P_SCP1_0, C4 IO_L1N_VREF_0, C5 IO_L6P_0, C6 IO_L3N_0, C7 IO_L10P_0, C8 IO_L11N_0, C9 IO_L34N_GCLK18_0, C10 IO_L37P_GCLK13_0, C11 IO_L36N_GCLK14_0, C14 IO_L65N_SCP2_0, C15 IO_L64P_SCP5_0, C17 IO_L29P_A23_M1A13_1, C18 IO_L29N_A22_M1A14_1, D4 IO_L1P_HSWAPEN_0, D6 IO_L3P_0, D7 VCCO_0, D8 IO_L11P_0, D9 IO_L34P_GCLK19_0, D11 IO_L36P_GCLK15_0, D13 VCCO_0, D14 IO_L65P_SCP3_0, D17 IO_L31P_A19_M1CKE_1, D18 IO_L31N_A18_M1A12_1, E10 VCCO_0, E13 IO_L63N_SCP6_0, E16 IO_L33P_A15_M1A10_1, E17 VCCO_1, E18 IO_L33N_A14_M1A4_1, F9 IO_L38N_VREF_0, F13 IO_L63P_SCP7_0, F14 IO_L30P_A21_M1RESET_1, F15 IO_L1P_A25_1, F16 IO_L1N_A24_VREF_1, F17 IO_L35P_A11_M1A7_1, F18 IO_L35N_A10_M1A2_1, G9 IO_L38P_0, G13 IO_L32N_A16_M1A9_1, G14 IO_L30N_A20_M1A11_1, G15 VCCO_1, G16 IO_L38P_A5_M1CLK_1, G18 IO_L38N_A4_M1CLKN_1, H12 IO_L32P_A17_M1A8_1, H13 IO_L36P_A9_M1BA0_1, H14 IO_L36N_A8_M1BA1_1, H15 IO_L37P_A7_M1A0_1, H16 IO_L37N_A6_M1A1_1, H17 IO_L43P_GCLK5_M1DQ4_1, H18 IO_L43N_GCLK4_M1DQ5_1, J13 IO_L39P_M1A3_1, J14 VCCO_1, J16 IO_L44P_A3_M1DQ6_1, J17 VCCO_1, J18 IO_L44N_A2_M1DQ7_1, K12 IO_L34P_A13_M1WE_1, K13 IO_L34N_A12_M1BA2_1, K14 IO_L39N_M1ODT_1, K15 IO_L41P_GCLK9_IRDY1_M1RASN_1, K16 IO_L41N_GCLK8_M1CASN_1, K17 IO_L45P_A1_M1LDQS_1, K18 IO_L45N_A0_M1LDQSN_1, L12 IO_L40P_GCLK11_M1A5_1, L13 IO_L40N_GCLK10_M1A6_1, L14 IO_L61P_1, L15 IO_L42P_GCLK7_M1UDM_1, L16 IO_L42N_GCLK6_TRDY1_M1LDM_1, L17 IO_L46P_FCS_B_M1DQ2_1, L18 IO_L46N_FOE_B_M1DQ3_1, M13 IO_L61N_1, M14 IO_L53P_1, M15 VCCO_1, M16 IO_L47P_FWE_B_M1DQ0_1, M18 IO_L47N_LDC_M1DQ1_1, N14 IO_L53N_VREF_1, N15 IO_L50P_M1UDQS_1, N16 IO_L50N_M1UDQSN_1, N17 IO_L48P_HDC_M1DQ8_1, N18 IO_L48N_M1DQ9_1, P15 IO_L74P_AWAKE_1, P16 IO_L74N_DOUT_BUSY_1, P17 IO_L49P_M1DQ10_1, P18 IO_L49N_M1DQ11_1, R17 VCCO_1, T17 IO_L51P_M1DQ12_1, T18 IO_L51N_M1DQ13_1, U17 IO_L52P_M1DQ14_1, U18 IO_L52N_M1DQ15_1
part B pins: C1 IO_L83N_VREF_3, C2 IO_L83P_3, D1 IO_L52N_M3A9_3, D2 IO_L52P_M3A8_3, D3 IO_L54N_M3A11_3, E1 IO_L50N_M3BA2_3, E2 VCCO_3, E3 IO_L50P_M3WE_3, E4 IO_L54P_M3RESET_3, F1 IO_L48N_M3BA1_3, F2 IO_L48P_M3BA0_3, F3 IO_L51N_M3A4_3, F4 IO_L51P_M3A10_3, F5 IO_L55N_M3A14_3, F6 IO_L55P_M3A13_3, G1 IO_L46N_M3CLKN_3, G3 IO_L46P_M3CLK_3, G4 VCCO_3, G6 IO_L53N_M3A12_3, H1 IO_L41N_GCLK26_M3DQ5_3, H2 IO_L41P_GCLK27_M3DQ4_3, H3 IO_L44N_GCLK20_M3A6_3, H4 IO_L44P_GCLK21_M3A5_3, H5 IO_L49N_M3A2_3, H6 IO_L49P_M3A7_3, H7 IO_L53P_M3CKE_3, J1 IO_L40N_M3DQ7_3, J2 VCCO_3, J3 IO_L40P_M3DQ6_3, J5 VCCO_3, J6 IO_L47N_M3A1_3, J7 IO_L47P_M3A0_3, K1 IO_L38N_M3DQ3_3, K2 IO_L38P_M3DQ2_3, K3 IO_L42N_GCLK24_M3LDM_3, K4 IO_L42P_GCLK25_TRDY2_M3UDM_3, K5 IO_L43N_GCLK22_IRDY2_M3CASN_3, K6 IO_L45N_M3ODT_3, L1 IO_L37N_M3DQ1_3, L2 IO_L37P_M3DQ0_3, L3 IO_L39N_M3LDQSN_3, L4 IO_L39P_M3LDQS_3, L5 IO_L43P_GCLK23_M3RASN_3, L6 IO_L31P_3, L7 IO_L45P_M3A3_3, M1 IO_L36N_M3DQ9_3, M3 IO_L36P_M3DQ8_3, M4 VCCO_3, M5 IO_L31N_VREF_3, N1 IO_L35N_M3DQ11_3, N2 IO_L35P_M3DQ10_3, N3 IO_L1N_VREF_3, N4 IO_L1P_3, N5 IO_L64P_D8_2, N12 IO_L13P_M1_2, P1 IO_L34N_M3UDQSN_3, P2 IO_L34P_M3UDQS_3, P3 IO_L2N_3, P4 IO_L2P_3, P6 IO_L64N_D9_2, P9 VCCO_2, P12 IO_L13N_D10_2, R2 VCCO_3, R3 IO_L62P_D5_2, R5 IO_L48P_D7_2, R6 VCCO_2, R7 IO_L46P_2, R8 IO_L31P_GCLK31_D14_2, R10 IO_L29P_GCLK3_2, R11 IO_L16P_2, R12 VCCO_2, R13 IO_L3P_D0_DIN_MISO_MISO1_2, R15 IO_L1P_CCLK_2, T1 IO_L33N_M3DQ13_3, T2 IO_L33P_M3DQ12_3, T3 IO_L62N_D6_2, T4 IO_L63P_2, T5 IO_L48N_RDWR_B_VREF_2, T6 IO_L45P_2, T7 IO_L46N_2, T8 IO_L31N_GCLK30_D15_2, T9 IO_L32P_GCLK29_2, T10 IO_L29N_GCLK2_2, T11 IO_L16N_VREF_2, T13 IO_L3N_MOSI_CSI_B_MISO0_2, T14 IO_L12P_D1_MISO2_2, T15 IO_L1N_M0_CMPMISO_2, U1 IO_L32N_M3DQ15_3, U2 IO_L32P_M3DQ14_3, U3 IO_L65P_INIT_B_2, U4 VCCO_2, U5 IO_L49P_D3_2, U7 IO_L43P_2, U8 IO_L41P_2, U9 VCCO_2, U10 IO_L30P_GCLK1_D13_2, U11 IO_L23P_2, U13 IO_L14P_D11_2, U14 VCCO_2, U16 IO_L2P_CMPCLK_2, V3 IO_L65N_CSO_B_2, V4 IO_L63N_2, V5 IO_L49N_D4_2, V6 IO_L45N_2, V7 IO_L43N_2, V8 IO_L41N_VREF_2, V9 IO_L32N_GCLK28_2, V10 IO_L30N_GCLK0_USERCCLK_2, V11 IO_L23N_2, V13 IO_L14N_D12_2, V14 IO_L12N_D2_MISO3_2, V16 IO_L2N_CMPMOSI_2
part C pins: A17 TCK, B18 TMS, D15 TDI, D16 TDO, P13 CMPCS_B_2, R16 SUSPEND, V2 PROGRAM_B_2, V17 DONE_2
part D pins: A1 GND, A18 GND, B1 VCCAUX, B7 GND, B13 GND, B17 VCCAUX, C3 GND, C16 GND, D5 GND, D10 GND, E5 VCCAUX, E9 VCCAUX, E14 VCCAUX, E15 GND, G2 GND, G5 GND, G7 VCCINT, G10 VCCAUX, G12 GND, G17 GND, H8 GND, H9 VCCINT, H10 GND, H11 VCCINT, J4 GND, J8 VCCINT, J9 GND, J10 VCCINT, J11 GND, J12 VCCAUX, J15 GND, K7 VCCAUX, K8 GND, K9 VCCINT, K10 GND, K11 VCCINT, L8 VCCINT, L9 GND, L10 VCCINT, L11 GND, M2 GND, M6 GND, M7 VCCINT, M9 VCCAUX, M12 VCCINT, M17 GND, N13 GND, P5 VCCAUX, P10 VCCAUX, P14 VCCAUX, R1 GND, R4 GND, R9 GND, R14 GND, R18 GND, T16 GND, U6 GND, U12 GND, V1 GND, V18 GND

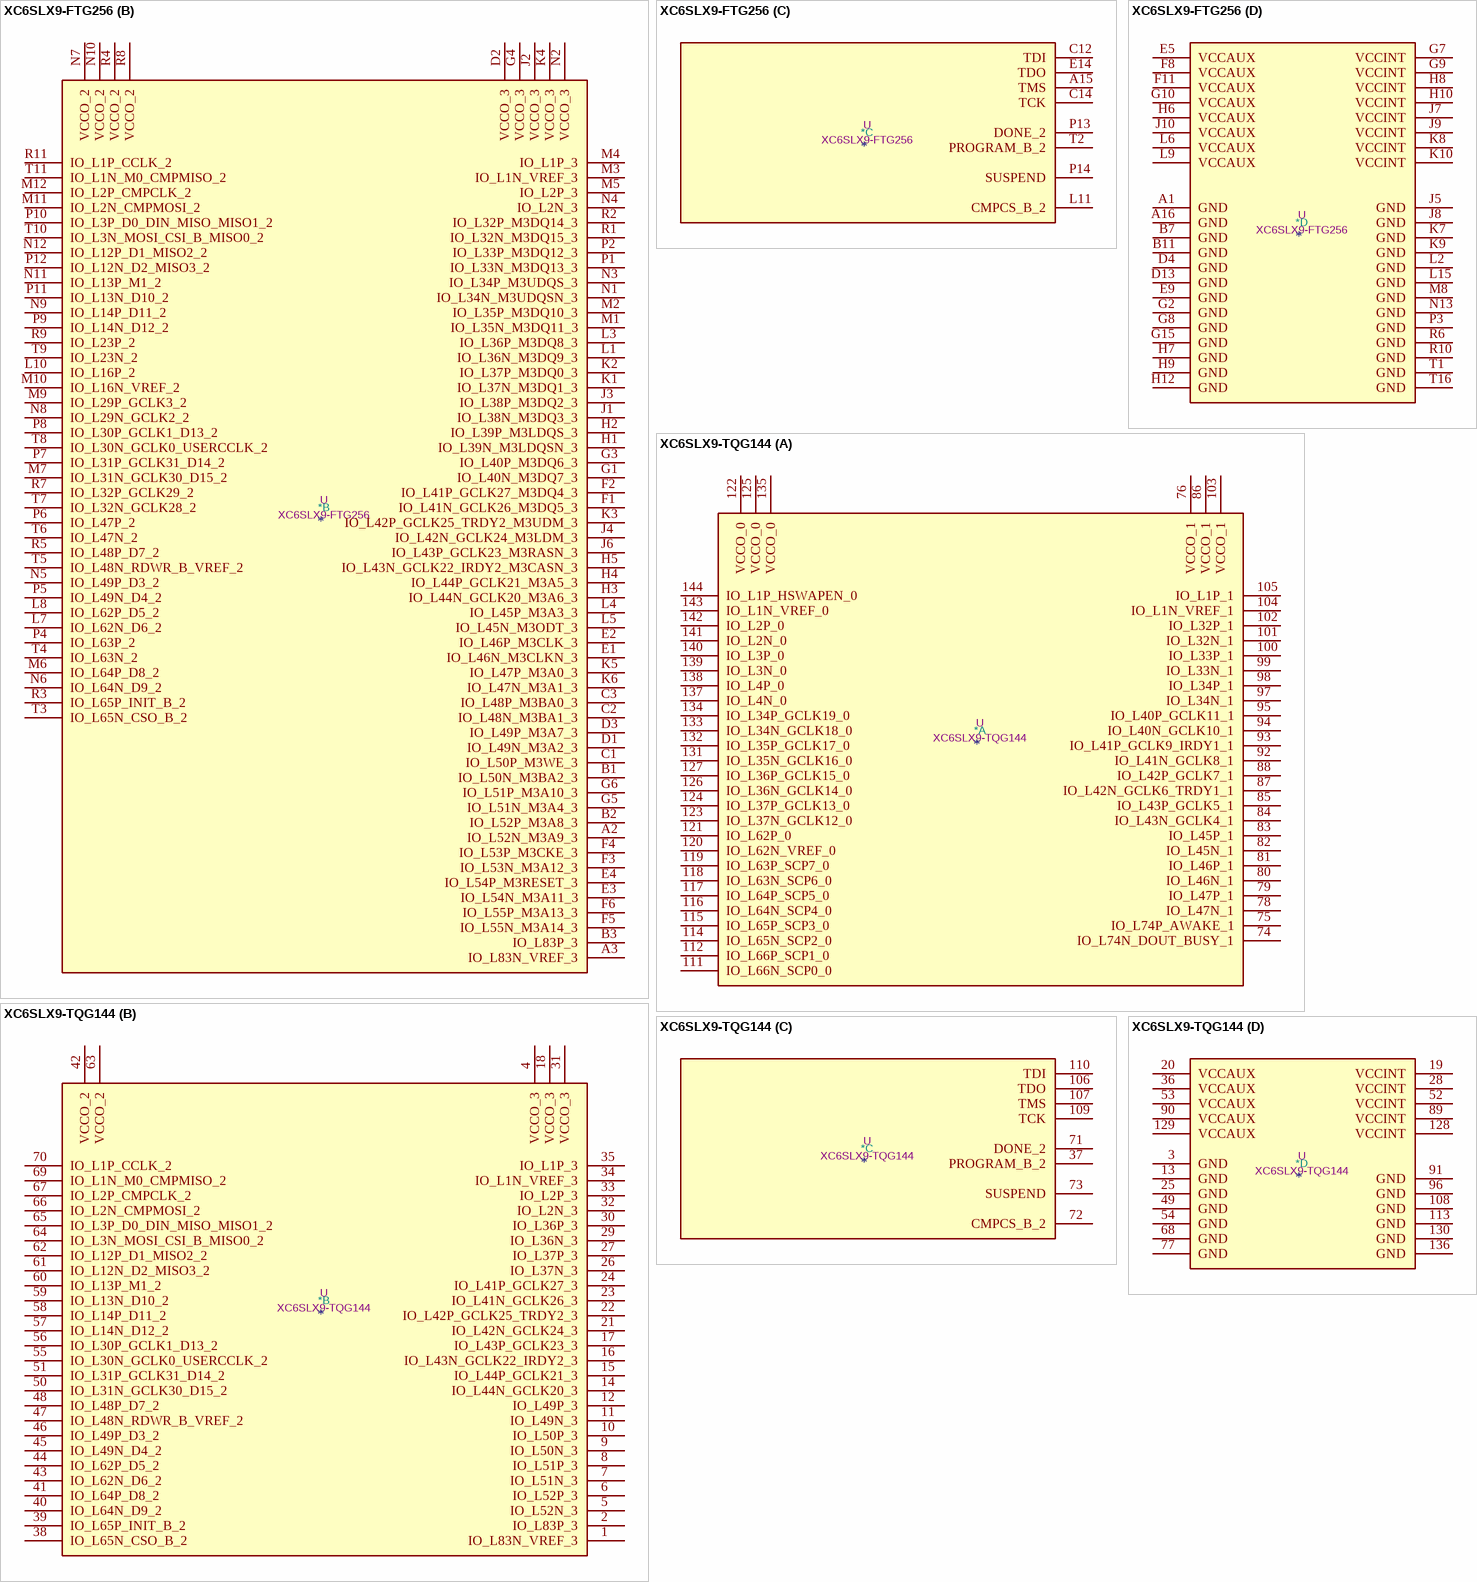
[diagram p5: symbols XC6SLX9-FTG256 to XC6SLX9-TQG144]

## XC6SLX9-FTG256
designator *  value XC6SLX9-FTG256  Reference: U
ki_keywords: FPGA; ki_description: Spartan 6 LX 9 XC6SLX9-FTG256
part A pins: A4 IO_L1N_VREF_0, A5 IO_L2N_0, A6 IO_L4N_0, A7 IO_L6N_0, A8 IO_L33N_0, A9 IO_L34N_GCLK18_0, A10 IO_L35N_GCLK16_0, A11 IO_L39N_0, A12 IO_L62N_VREF_0, A13 IO_L63N_SCP6_0, A14 IO_L65N_SCP2_0, B4 VCCO_0, B5 IO_L2P_0, B6 IO_L4P_0, B8 IO_L33P_0, B9 VCCO_0, B10 IO_L35P_GCLK17_0, B12 IO_L62P_0, B13 VCCO_0, B14 IO_L65P_SCP3_0, B15 IO_L29P_A23_M1A13_1, B16 IO_L29N_A22_M1A14_1, C4 IO_L1P_HSWAPEN_0, C5 IO_L3N_0, C6 IO_L7N_0, C7 IO_L6P_0, C8 IO_L38N_VREF_0, C9 IO_L34P_GCLK19_0, C10 IO_L37N_GCLK12_0, C11 IO_L39P_0, C13 IO_L63P_SCP7_0, C15 IO_L33P_A15_M1A10_1, C16 IO_L33N_A14_M1A4_1, D5 IO_L3P_0, D6 IO_L7P_0, D7 VCCO_0, D8 IO_L38P_0, D9 IO_L40N_0, D10 VCCO_0, D11 IO_L66P_SCP1_0, D12 IO_L66N_SCP0_0, D14 IO_L31P_A19_M1CKE_1, D15 VCCO_1, D16 IO_L31N_A18_M1A12_1, E6 IO_L5N_0, E7 IO_L36P_GCLK15_0, E8 IO_L36N_GCLK14_0, E10 IO_L37P_GCLK13_0, E11 IO_L64N_SCP4_0, E12 IO_L1N_A24_VREF_1, E13 IO_L1P_A25_1, E15 IO_L34P_A13_M1WE_1, E16 IO_L34N_A12_M1BA2_1, F7 IO_L5P_0, F9 IO_L40P_0, F10 IO_L64P_SCP5_0, F12 IO_L30P_A21_M1RESET_1, F13 IO_L32P_A17_M1A8_1, F14 IO_L32N_A16_M1A9_1, F15 IO_L35P_A11_M1A7_1, F16 IO_L35N_A10_M1A2_1, G11 IO_L30N_A20_M1A11_1, G12 IO_L38P_A5_M1CLK_1, G13 VCCO_1, G14 IO_L36P_A9_M1BA0_1, G16 IO_L36N_A8_M1BA1_1, H11 IO_L38N_A4_M1CLKN_1, H13 IO_L39P_M1A3_1, H14 IO_L39N_M1ODT_1, H15 IO_L37P_A7_M1A0_1, H16 IO_L37N_A6_M1A1_1, J11 IO_L40P_GCLK11_M1A5_1, J12 IO_L40N_GCLK10_M1A6_1, J13 IO_L41P_GCLK9_IRDY1_M1RASN_1, J14 IO_L43P_GCLK5_M1DQ4_1, J15 VCCO_1, J16 IO_L43N_GCLK4_M1DQ5_1, K11 IO_L42N_GCLK6_TRDY1_M1LDM_1, K12 IO_L42P_GCLK7_M1UDM_1, K13 VCCO_1, K14 IO_L41N_GCLK8_M1CASN_1, K15 IO_L44P_A3_M1DQ6_1, K16 IO_L44N_A2_M1DQ7_1, L12 IO_L53P_1, L13 IO_L53N_VREF_1, L14 IO_L47P_FWE_B_M1DQ0_1, L16 IO_L47N_LDC_M1DQ1_1, M13 IO_L74P_AWAKE_1, M14 IO_L74N_DOUT_BUSY_1, M15 IO_L46P_FCS_B_M1DQ2_1, M16 IO_L46N_FOE_B_M1DQ3_1, N14 IO_L45P_A1_M1LDQS_1, N15 VCCO_1, N16 IO_L45N_A0_M1LDQSN_1, P15 IO_L48P_HDC_M1DQ8_1, P16 IO_L48N_M1DQ9_1, R12 IO_L52P_M1DQ14_1, R13 VCCO_1, R14 IO_L50P_M1UDQS_1, R15 IO_L49P_M1DQ10_1, R16 IO_L49N_M1DQ11_1, T12 IO_L52N_M1DQ15_1, T13 IO_L51N_M1DQ13_1, T14 IO_L51P_M1DQ12_1, T15 IO_L50N_M1UDQSN_1
part B pins: A2 IO_L52N_M3A9_3, A3 IO_L83N_VREF_3, B1 IO_L50N_M3BA2_3, B2 IO_L52P_M3A8_3, B3 IO_L83P_3, C1 IO_L50P_M3WE_3, C2 IO_L48N_M3BA1_3, C3 IO_L48P_M3BA0_3, D1 IO_L49N_M3A2_3, D2 VCCO_3, D3 IO_L49P_M3A7_3, E1 IO_L46N_M3CLKN_3, E2 IO_L46P_M3CLK_3, E3 IO_L54N_M3A11_3, E4 IO_L54P_M3RESET_3, F1 IO_L41N_GCLK26_M3DQ5_3, F2 IO_L41P_GCLK27_M3DQ4_3, F3 IO_L53N_M3A12_3, F4 IO_L53P_M3CKE_3, F5 IO_L55N_M3A14_3, F6 IO_L55P_M3A13_3, G1 IO_L40N_M3DQ7_3, G3 IO_L40P_M3DQ6_3, G4 VCCO_3, G5 IO_L51N_M3A4_3, G6 IO_L51P_M3A10_3, H1 IO_L39N_M3LDQSN_3, H2 IO_L39P_M3LDQS_3, H3 IO_L44N_GCLK20_M3A6_3, H4 IO_L44P_GCLK21_M3A5_3, H5 IO_L43N_GCLK22_IRDY2_M3CASN_3, J1 IO_L38N_M3DQ3_3, J2 VCCO_3, J3 IO_L38P_M3DQ2_3, J4 IO_L42N_GCLK24_M3LDM_3, J6 IO_L43P_GCLK23_M3RASN_3, K1 IO_L37N_M3DQ1_3, K2 IO_L37P_M3DQ0_3, K3 IO_L42P_GCLK25_TRDY2_M3UDM_3, K4 VCCO_3, K5 IO_L47P_M3A0_3, K6 IO_L47N_M3A1_3, L1 IO_L36N_M3DQ9_3, L3 IO_L36P_M3DQ8_3, L4 IO_L45P_M3A3_3, L5 IO_L45N_M3ODT_3, L7 IO_L62N_D6_2, L8 IO_L62P_D5_2, L10 IO_L16P_2, M1 IO_L35N_M3DQ11_3, M2 IO_L35P_M3DQ10_3, M3 IO_L1N_VREF_3, M4 IO_L1P_3, M5 IO_L2P_3, M6 IO_L64P_D8_2, M7 IO_L31N_GCLK30_D15_2, M9 IO_L29P_GCLK3_2, M10 IO_L16N_VREF_2, M11 IO_L2N_CMPMOSI_2, M12 IO_L2P_CMPCLK_2, N1 IO_L34N_M3UDQSN_3, N2 VCCO_3, N3 IO_L34P_M3UDQS_3, N4 IO_L2N_3, N5 IO_L49P_D3_2, N6 IO_L64N_D9_2, N7 VCCO_2, N8 IO_L29N_GCLK2_2, N9 IO_L14P_D11_2, N10 VCCO_2, N11 IO_L13P_M1_2, N12 IO_L12P_D1_MISO2_2, P1 IO_L33N_M3DQ13_3, P2 IO_L33P_M3DQ12_3, P4 IO_L63P_2, P5 IO_L49N_D4_2, P6 IO_L47P_2, P7 IO_L31P_GCLK31_D14_2, P8 IO_L30P_GCLK1_D13_2, P9 IO_L14N_D12_2, P10 IO_L3P_D0_DIN_MISO_MISO1_2, P11 IO_L13N_D10_2, P12 IO_L12N_D2_MISO3_2, R1 IO_L32N_M3DQ15_3, R2 IO_L32P_M3DQ14_3, R3 IO_L65P_INIT_B_2, R4 VCCO_2, R5 IO_L48P_D7_2, R7 IO_L32P_GCLK29_2, R8 VCCO_2, R9 IO_L23P_2, R11 IO_L1P_CCLK_2, T3 IO_L65N_CSO_B_2, T4 IO_L63N_2, T5 IO_L48N_RDWR_B_VREF_2, T6 IO_L47N_2, T7 IO_L32N_GCLK28_2, T8 IO_L30N_GCLK0_USERCCLK_2, T9 IO_L23N_2, T10 IO_L3N_MOSI_CSI_B_MISO0_2, T11 IO_L1N_M0_CMPMISO_2
part C pins: A15 TMS, C12 TDI, C14 TCK, E14 TDO, L11 CMPCS_B_2, P13 DONE_2, P14 SUSPEND, T2 PROGRAM_B_2
part D pins: A1 GND, A16 GND, B7 GND, B11 GND, D4 GND, D13 GND, E5 VCCAUX, E9 GND, F8 VCCAUX, F11 VCCAUX, G2 GND, G7 VCCINT, G8 GND, G9 VCCINT, G10 VCCAUX, G15 GND, H6 VCCAUX, H7 GND, H8 VCCINT, H9 GND, H10 VCCINT, H12 GND, J5 GND, J7 VCCINT, J8 GND, J9 VCCINT, J10 VCCAUX, K7 GND, K8 VCCINT, K9 GND, K10 VCCINT, L2 GND, L6 VCCAUX, L9 VCCAUX, L15 GND, M8 GND, N13 GND, P3 GND, R6 GND, R10 GND, T1 GND, T16 GND

## XC6SLX9-TQG144
designator *  value XC6SLX9-TQG144  Reference: U
ki_keywords: FPGA; ki_description: Spartan 6 LX 9 XC6SLX9-TQG144
part A pins: 74 IO_L74N_DOUT_BUSY_1, 75 IO_L74P_AWAKE_1, 76 VCCO_1, 78 IO_L47N_1, 79 IO_L47P_1, 80 IO_L46N_1, 81 IO_L46P_1, 82 IO_L45N_1, 83 IO_L45P_1, 84 IO_L43N_GCLK4_1, 85 IO_L43P_GCLK5_1, 86 VCCO_1, 87 IO_L42N_GCLK6_TRDY1_1, 88 IO_L42P_GCLK7_1, 92 IO_L41N_GCLK8_1, 93 IO_L41P_GCLK9_IRDY1_1, 94 IO_L40N_GCLK10_1, 95 IO_L40P_GCLK11_1, 97 IO_L34N_1, 98 IO_L34P_1, 99 IO_L33N_1, 100 IO_L33P_1, 101 IO_L32N_1, 102 IO_L32P_1, 103 VCCO_1, 104 IO_L1N_VREF_1, 105 IO_L1P_1, 111 IO_L66N_SCP0_0, 112 IO_L66P_SCP1_0, 114 IO_L65N_SCP2_0, 115 IO_L65P_SCP3_0, 116 IO_L64N_SCP4_0, 117 IO_L64P_SCP5_0, 118 IO_L63N_SCP6_0, 119 IO_L63P_SCP7_0, 120 IO_L62N_VREF_0, 121 IO_L62P_0, 122 VCCO_0, 123 IO_L37N_GCLK12_0, 124 IO_L37P_GCLK13_0, 125 VCCO_0, 126 IO_L36N_GCLK14_0, 127 IO_L36P_GCLK15_0, 131 IO_L35N_GCLK16_0, 132 IO_L35P_GCLK17_0, 133 IO_L34N_GCLK18_0, 134 IO_L34P_GCLK19_0, 135 VCCO_0, 137 IO_L4N_0, 138 IO_L4P_0, 139 IO_L3N_0, 140 IO_L3P_0, 141 IO_L2N_0, 142 IO_L2P_0, 143 IO_L1N_VREF_0, 144 IO_L1P_HSWAPEN_0
part B pins: 1 IO_L83N_VREF_3, 2 IO_L83P_3, 4 VCCO_3, 5 IO_L52N_3, 6 IO_L52P_3, 7 IO_L51N_3, 8 IO_L51P_3, 9 IO_L50N_3, 10 IO_L50P_3, 11 IO_L49N_3, 12 IO_L49P_3, 14 IO_L44N_GCLK20_3, 15 IO_L44P_GCLK21_3, 16 IO_L43N_GCLK22_IRDY2_3, 17 IO_L43P_GCLK23_3, 18 VCCO_3, 21 IO_L42N_GCLK24_3, 22 IO_L42P_GCLK25_TRDY2_3, 23 IO_L41N_GCLK26_3, 24 IO_L41P_GCLK27_3, 26 IO_L37N_3, 27 IO_L37P_3, 29 IO_L36N_3, 30 IO_L36P_3, 31 VCCO_3, 32 IO_L2N_3, 33 IO_L2P_3, 34 IO_L1N_VREF_3, 35 IO_L1P_3, 38 IO_L65N_CSO_B_2, 39 IO_L65P_INIT_B_2, 40 IO_L64N_D9_2, 41 IO_L64P_D8_2, 42 VCCO_2, 43 IO_L62N_D6_2, 44 IO_L62P_D5_2, 45 IO_L49N_D4_2, 46 IO_L49P_D3_2, 47 IO_L48N_RDWR_B_VREF_2, 48 IO_L48P_D7_2, 50 IO_L31N_GCLK30_D15_2, 51 IO_L31P_GCLK31_D14_2, 55 IO_L30N_GCLK0_USERCCLK_2, 56 IO_L30P_GCLK1_D13_2, 57 IO_L14N_D12_2, 58 IO_L14P_D11_2, 59 IO_L13N_D10_2, 60 IO_L13P_M1_2, 61 IO_L12N_D2_MISO3_2, 62 IO_L12P_D1_MISO2_2, 63 VCCO_2, 64 IO_L3N_MOSI_CSI_B_MISO0_2, 65 IO_L3P_D0_DIN_MISO_MISO1_2, 66 IO_L2N_CMPMOSI_2, 67 IO_L2P_CMPCLK_2, 69 IO_L1N_M0_CMPMISO_2, 70 IO_L1P_CCLK_2
part C pins: 37 PROGRAM_B_2, 71 DONE_2, 72 CMPCS_B_2, 73 SUSPEND, 106 TDO, 107 TMS, 109 TCK, 110 TDI
part D pins: 3 GND, 13 GND, 19 VCCINT, 20 VCCAUX, 25 GND, 28 VCCINT, 36 VCCAUX, 49 GND, 52 VCCINT, 53 VCCAUX, 54 GND, 68 GND, 77 GND, 89 VCCINT, 90 VCCAUX, 91 GND, 96 GND, 108 GND, 113 GND, 128 VCCINT, 129 VCCAUX, 130 GND, 136 GND

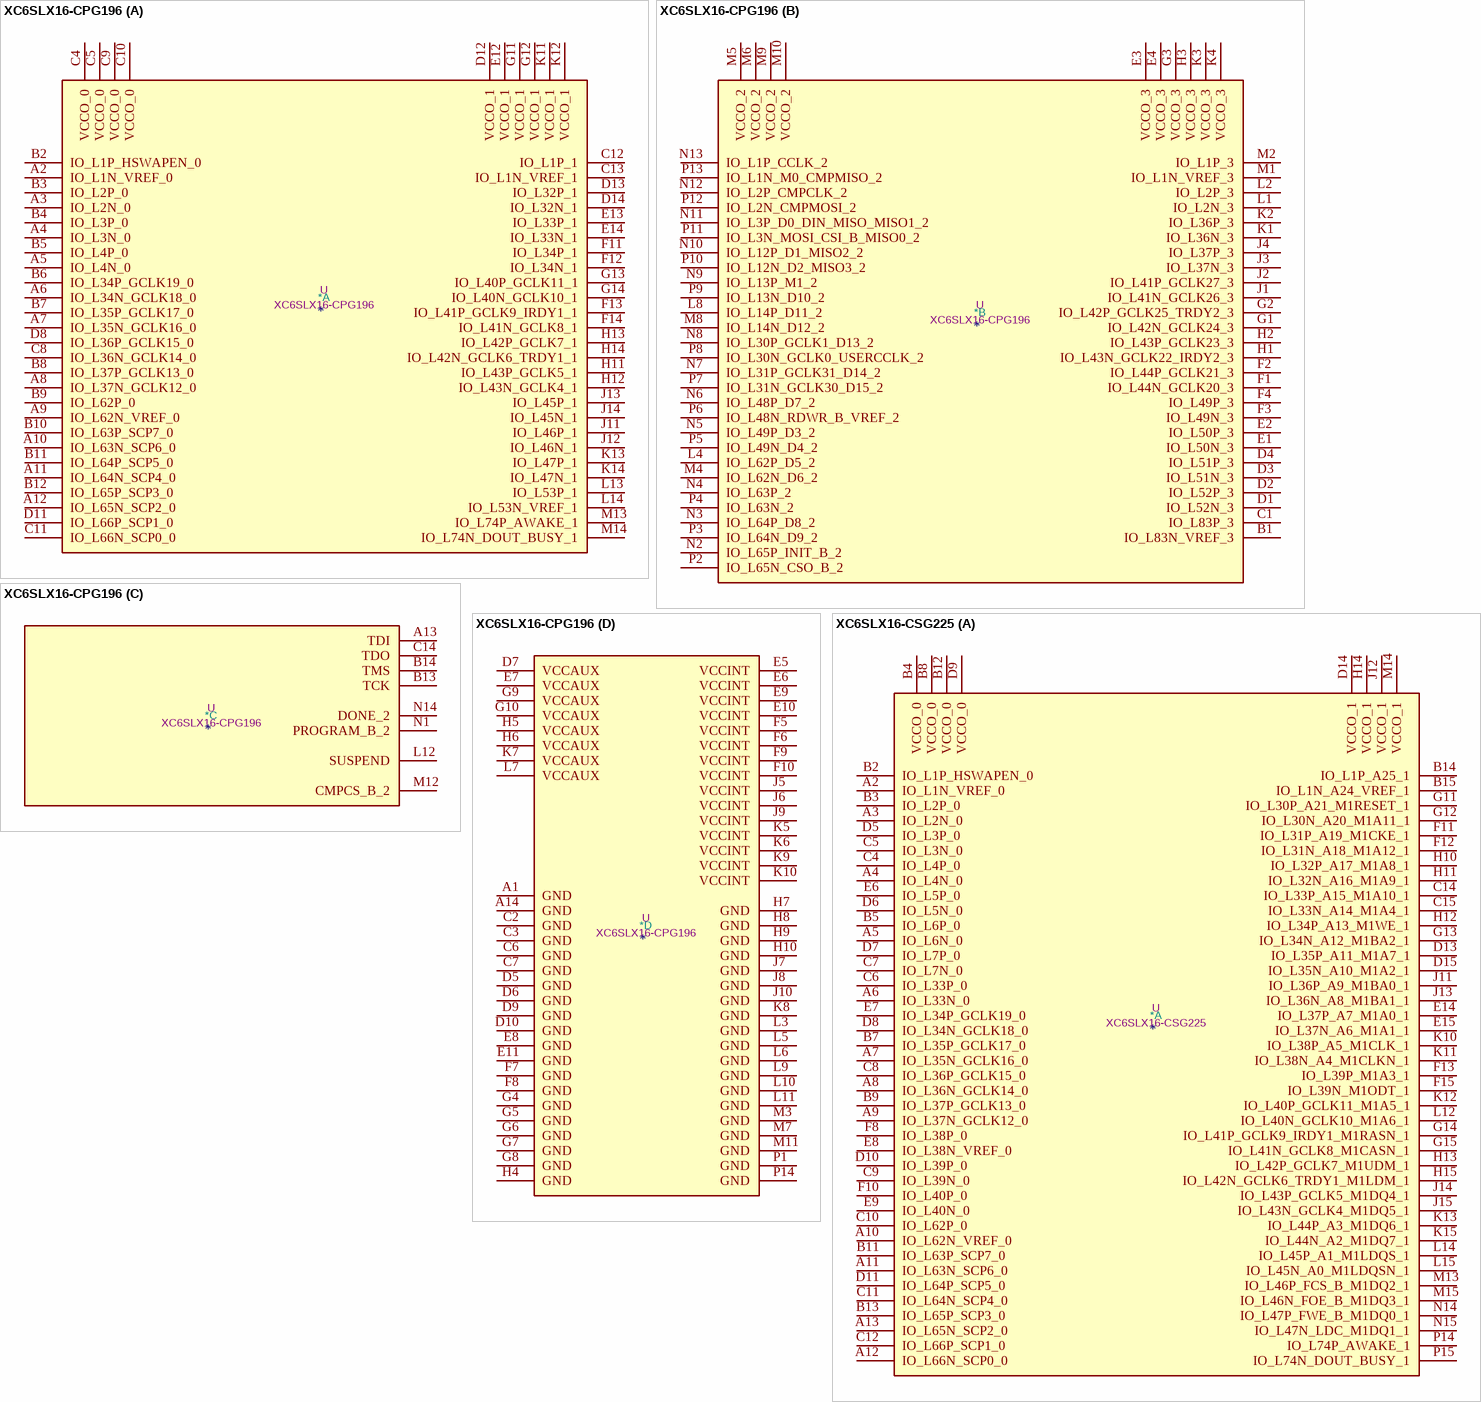
[diagram p6: symbols XC6SLX16-CPG196 to XC6SLX16-CSG225]

## XC6SLX16-CPG196
designator *  value XC6SLX16-CPG196  Reference: U
ki_keywords: FPGA; ki_description: Spartan 6 LX 16 XC6SLX16-CPG196
part A pins: A2 IO_L1N_VREF_0, A3 IO_L2N_0, A4 IO_L3N_0, A5 IO_L4N_0, A6 IO_L34N_GCLK18_0, A7 IO_L35N_GCLK16_0, A8 IO_L37N_GCLK12_0, A9 IO_L62N_VREF_0, A10 IO_L63N_SCP6_0, A11 IO_L64N_SCP4_0, A12 IO_L65N_SCP2_0, B2 IO_L1P_HSWAPEN_0, B3 IO_L2P_0, B4 IO_L3P_0, B5 IO_L4P_0, B6 IO_L34P_GCLK19_0, B7 IO_L35P_GCLK17_0, B8 IO_L37P_GCLK13_0, B9 IO_L62P_0, B10 IO_L63P_SCP7_0, B11 IO_L64P_SCP5_0, B12 IO_L65P_SCP3_0, C4 VCCO_0, C5 VCCO_0, C8 IO_L36N_GCLK14_0, C9 VCCO_0, C10 VCCO_0, C11 IO_L66N_SCP0_0, C12 IO_L1P_1, C13 IO_L1N_VREF_1, D8 IO_L36P_GCLK15_0, D11 IO_L66P_SCP1_0, D12 VCCO_1, D13 IO_L32P_1, D14 IO_L32N_1, E12 VCCO_1, E13 IO_L33P_1, E14 IO_L33N_1, F11 IO_L34P_1, F12 IO_L34N_1, F13 IO_L41P_GCLK9_IRDY1_1, F14 IO_L41N_GCLK8_1, G11 VCCO_1, G12 VCCO_1, G13 IO_L40P_GCLK11_1, G14 IO_L40N_GCLK10_1, H11 IO_L43P_GCLK5_1, H12 IO_L43N_GCLK4_1, H13 IO_L42P_GCLK7_1, H14 IO_L42N_GCLK6_TRDY1_1, J11 IO_L46P_1, J12 IO_L46N_1, J13 IO_L45P_1, J14 IO_L45N_1, K11 VCCO_1, K12 VCCO_1, K13 IO_L47P_1, K14 IO_L47N_1, L13 IO_L53P_1, L14 IO_L53N_VREF_1, M13 IO_L74P_AWAKE_1, M14 IO_L74N_DOUT_BUSY_1
part B pins: B1 IO_L83N_VREF_3, C1 IO_L83P_3, D1 IO_L52N_3, D2 IO_L52P_3, D3 IO_L51N_3, D4 IO_L51P_3, E1 IO_L50N_3, E2 IO_L50P_3, E3 VCCO_3, E4 VCCO_3, F1 IO_L44N_GCLK20_3, F2 IO_L44P_GCLK21_3, F3 IO_L49N_3, F4 IO_L49P_3, G1 IO_L42N_GCLK24_3, G2 IO_L42P_GCLK25_TRDY2_3, G3 VCCO_3, H1 IO_L43N_GCLK22_IRDY2_3, H2 IO_L43P_GCLK23_3, H3 VCCO_3, J1 IO_L41N_GCLK26_3, J2 IO_L41P_GCLK27_3, J3 IO_L37N_3, J4 IO_L37P_3, K1 IO_L36N_3, K2 IO_L36P_3, K3 VCCO_3, K4 VCCO_3, L1 IO_L2N_3, L2 IO_L2P_3, L4 IO_L62P_D5_2, L8 IO_L14P_D11_2, M1 IO_L1N_VREF_3, M2 IO_L1P_3, M4 IO_L62N_D6_2, M5 VCCO_2, M6 VCCO_2, M8 IO_L14N_D12_2, M9 VCCO_2, M10 VCCO_2, N2 IO_L65P_INIT_B_2, N3 IO_L64P_D8_2, N4 IO_L63P_2, N5 IO_L49P_D3_2, N6 IO_L48P_D7_2, N7 IO_L31P_GCLK31_D14_2, N8 IO_L30P_GCLK1_D13_2, N9 IO_L13P_M1_2, N10 IO_L12P_D1_MISO2_2, N11 IO_L3P_D0_DIN_MISO_MISO1_2, N12 IO_L2P_CMPCLK_2, N13 IO_L1P_CCLK_2, P2 IO_L65N_CSO_B_2, P3 IO_L64N_D9_2, P4 IO_L63N_2, P5 IO_L49N_D4_2, P6 IO_L48N_RDWR_B_VREF_2, P7 IO_L31N_GCLK30_D15_2, P8 IO_L30N_GCLK0_USERCCLK_2, P9 IO_L13N_D10_2, P10 IO_L12N_D2_MISO3_2, P11 IO_L3N_MOSI_CSI_B_MISO0_2, P12 IO_L2N_CMPMOSI_2, P13 IO_L1N_M0_CMPMISO_2
part C pins: A13 TDI, B13 TCK, B14 TMS, C14 TDO, L12 SUSPEND, M12 CMPCS_B_2, N1 PROGRAM_B_2, N14 DONE_2
part D pins: A1 GND, A14 GND, C2 GND, C3 GND, C6 GND, C7 GND, D5 GND, D6 GND, D7 VCCAUX, D9 GND, D10 GND, E5 VCCINT, E6 VCCINT, E7 VCCAUX, E8 GND, E9 VCCINT, E10 VCCINT, E11 GND, F5 VCCINT, F6 VCCINT, F7 GND, F8 GND, F9 VCCINT, F10 VCCINT, G4 GND, G5 GND, G6 GND, G7 GND, G8 GND, G9 VCCAUX, G10 VCCAUX, H4 GND, H5 VCCAUX, H6 VCCAUX, H7 GND, H8 GND, H9 GND, H10 GND, J5 VCCINT, J6 VCCINT, J7 GND, J8 GND, J9 VCCINT, J10 GND, K5 VCCINT, K6 VCCINT, K7 VCCAUX, K8 GND, K9 VCCINT, K10 VCCINT, L3 GND, L5 GND, L6 GND, L7 VCCAUX, L9 GND, L10 GND, L11 GND, M3 GND, M7 GND, M11 GND, P1 GND, P14 GND

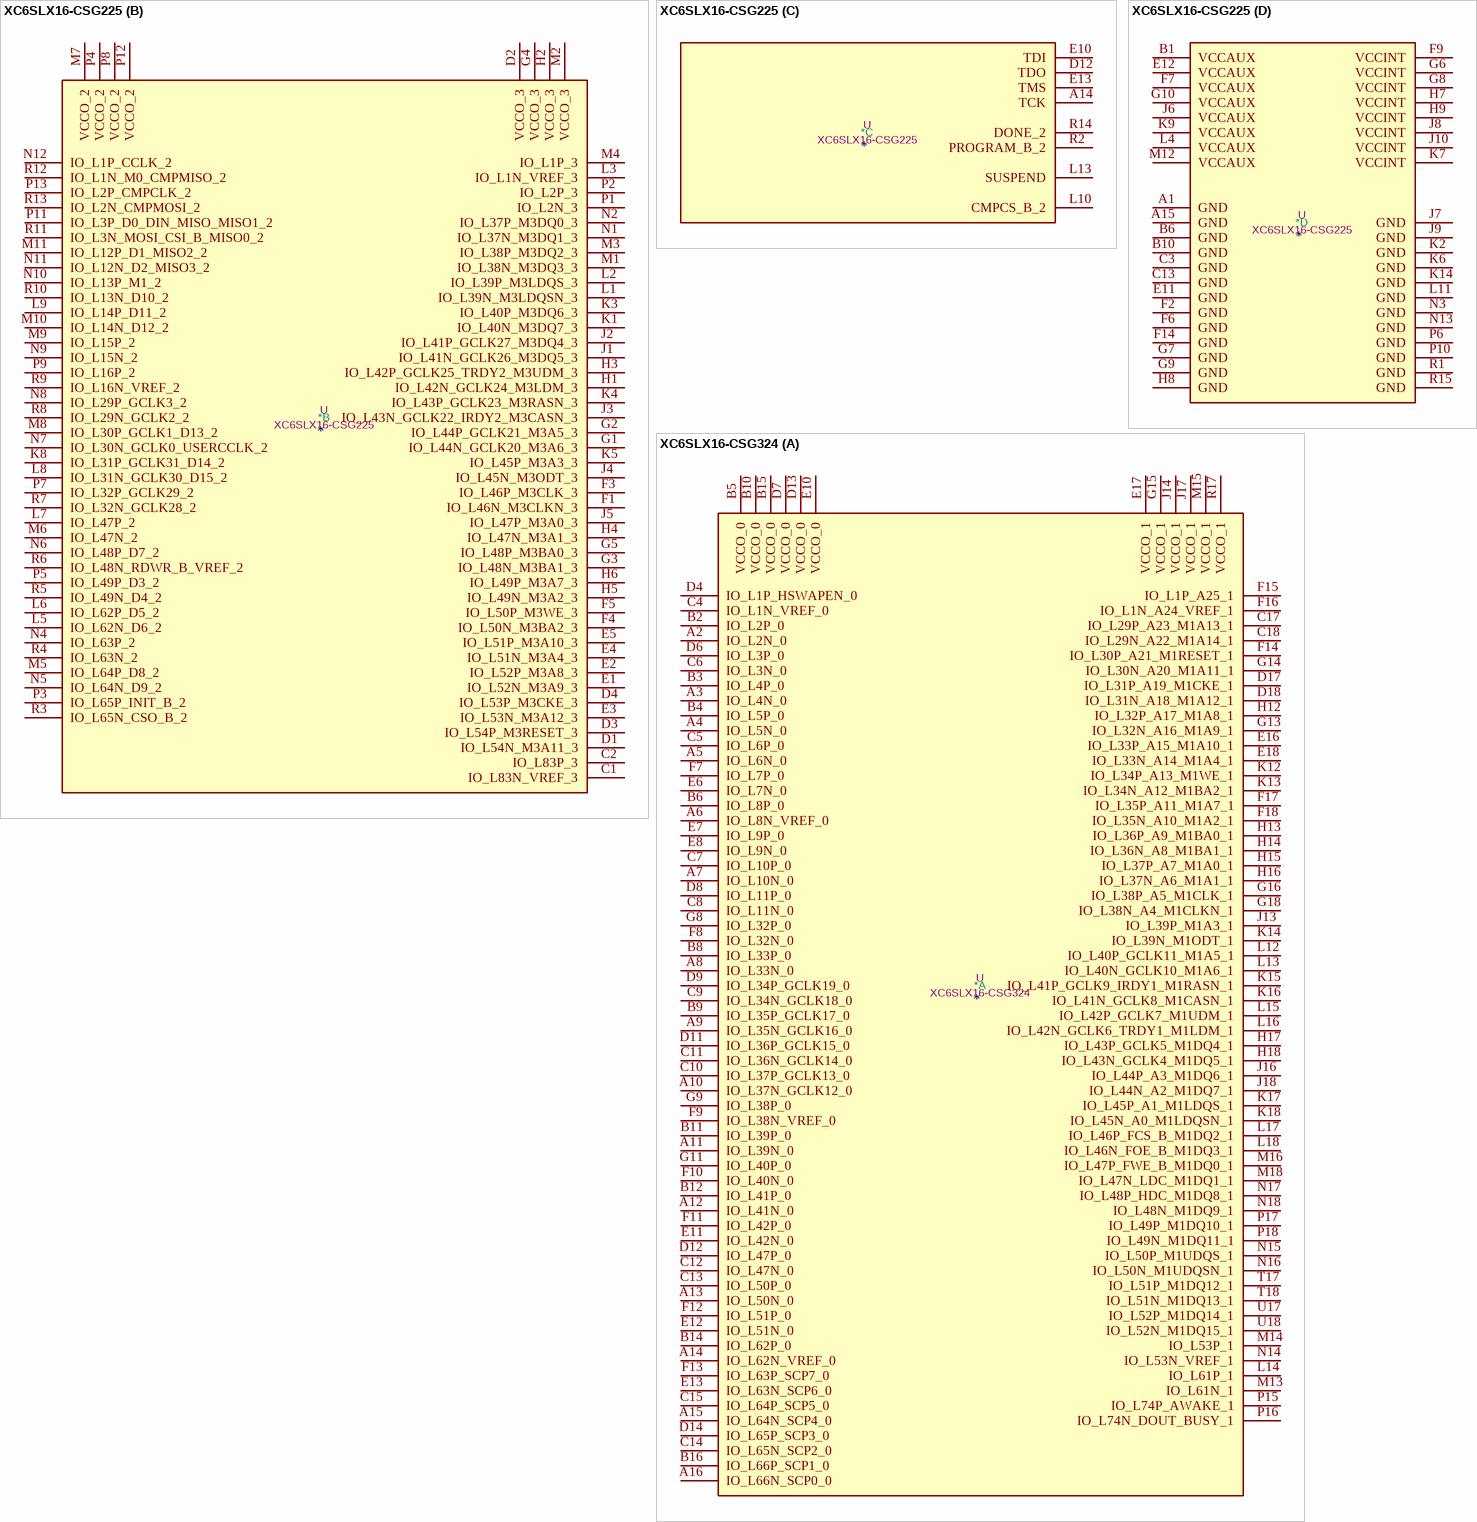
[diagram p7: symbols XC6SLX16-CSG225 to XC6SLX16-CSG324]

## XC6SLX16-CSG225
designator *  value XC6SLX16-CSG225  Reference: U
ki_keywords: FPGA; ki_description: Spartan 6 LX 16 XC6SLX16-CSG225
part A pins: A2 IO_L1N_VREF_0, A3 IO_L2N_0, A4 IO_L4N_0, A5 IO_L6N_0, A6 IO_L33N_0, A7 IO_L35N_GCLK16_0, A8 IO_L36N_GCLK14_0, A9 IO_L37N_GCLK12_0, A10 IO_L62N_VREF_0, A11 IO_L63N_SCP6_0, A12 IO_L66N_SCP0_0, A13 IO_L65N_SCP2_0, B2 IO_L1P_HSWAPEN_0, B3 IO_L2P_0, B4 VCCO_0, B5 IO_L6P_0, B7 IO_L35P_GCLK17_0, B8 VCCO_0, B9 IO_L37P_GCLK13_0, B11 IO_L63P_SCP7_0, B12 VCCO_0, B13 IO_L65P_SCP3_0, B14 IO_L1P_A25_1, B15 IO_L1N_A24_VREF_1, C4 IO_L4P_0, C5 IO_L3N_0, C6 IO_L33P_0, C7 IO_L7N_0, C8 IO_L36P_GCLK15_0, C9 IO_L39N_0, C10 IO_L62P_0, C11 IO_L64N_SCP4_0, C12 IO_L66P_SCP1_0, C14 IO_L33P_A15_M1A10_1, C15 IO_L33N_A14_M1A4_1, D5 IO_L3P_0, D6 IO_L5N_0, D7 IO_L7P_0, D8 IO_L34N_GCLK18_0, D9 VCCO_0, D10 IO_L39P_0, D11 IO_L64P_SCP5_0, D13 IO_L35P_A11_M1A7_1, D14 VCCO_1, D15 IO_L35N_A10_M1A2_1, E6 IO_L5P_0, E7 IO_L34P_GCLK19_0, E8 IO_L38N_VREF_0, E9 IO_L40N_0, E14 IO_L37P_A7_M1A0_1, E15 IO_L37N_A6_M1A1_1, F8 IO_L38P_0, F10 IO_L40P_0, F11 IO_L31P_A19_M1CKE_1, F12 IO_L31N_A18_M1A12_1, F13 IO_L39P_M1A3_1, F15 IO_L39N_M1ODT_1, G11 IO_L30P_A21_M1RESET_1, G12 IO_L30N_A20_M1A11_1, G13 IO_L34N_A12_M1BA2_1, G14 IO_L41P_GCLK9_IRDY1_M1RASN_1, G15 IO_L41N_GCLK8_M1CASN_1, H10 IO_L32P_A17_M1A8_1, H11 IO_L32N_A16_M1A9_1, H12 IO_L34P_A13_M1WE_1, H13 IO_L42P_GCLK7_M1UDM_1, H14 VCCO_1, H15 IO_L42N_GCLK6_TRDY1_M1LDM_1, J11 IO_L36P_A9_M1BA0_1, J12 VCCO_1, J13 IO_L36N_A8_M1BA1_1, J14 IO_L43P_GCLK5_M1DQ4_1, J15 IO_L43N_GCLK4_M1DQ5_1, K10 IO_L38P_A5_M1CLK_1, K11 IO_L38N_A4_M1CLKN_1, K12 IO_L40P_GCLK11_M1A5_1, K13 IO_L44P_A3_M1DQ6_1, K15 IO_L44N_A2_M1DQ7_1, L12 IO_L40N_GCLK10_M1A6_1, L14 IO_L45P_A1_M1LDQS_1, L15 IO_L45N_A0_M1LDQSN_1, M13 IO_L46P_FCS_B_M1DQ2_1, M14 VCCO_1, M15 IO_L46N_FOE_B_M1DQ3_1, N14 IO_L47P_FWE_B_M1DQ0_1, N15 IO_L47N_LDC_M1DQ1_1, P14 IO_L74P_AWAKE_1, P15 IO_L74N_DOUT_BUSY_1
part B pins: C1 IO_L83N_VREF_3, C2 IO_L83P_3, D1 IO_L54N_M3A11_3, D2 VCCO_3, D3 IO_L54P_M3RESET_3, D4 IO_L53P_M3CKE_3, E1 IO_L52N_M3A9_3, E2 IO_L52P_M3A8_3, E3 IO_L53N_M3A12_3, E4 IO_L51N_M3A4_3, E5 IO_L51P_M3A10_3, F1 IO_L46N_M3CLKN_3, F3 IO_L46P_M3CLK_3, F4 IO_L50N_M3BA2_3, F5 IO_L50P_M3WE_3, G1 IO_L44N_GCLK20_M3A6_3, G2 IO_L44P_GCLK21_M3A5_3, G3 IO_L48N_M3BA1_3, G4 VCCO_3, G5 IO_L48P_M3BA0_3, H1 IO_L42N_GCLK24_M3LDM_3, H2 VCCO_3, H3 IO_L42P_GCLK25_TRDY2_M3UDM_3, H4 IO_L47N_M3A1_3, H5 IO_L49N_M3A2_3, H6 IO_L49P_M3A7_3, J1 IO_L41N_GCLK26_M3DQ5_3, J2 IO_L41P_GCLK27_M3DQ4_3, J3 IO_L43N_GCLK22_IRDY2_M3CASN_3, J4 IO_L45N_M3ODT_3, J5 IO_L47P_M3A0_3, K1 IO_L40N_M3DQ7_3, K3 IO_L40P_M3DQ6_3, K4 IO_L43P_GCLK23_M3RASN_3, K5 IO_L45P_M3A3_3, K8 IO_L31P_GCLK31_D14_2, L1 IO_L39N_M3LDQSN_3, L2 IO_L39P_M3LDQS_3, L3 IO_L1N_VREF_3, L5 IO_L62N_D6_2, L6 IO_L62P_D5_2, L7 IO_L47P_2, L8 IO_L31N_GCLK30_D15_2, L9 IO_L14P_D11_2, M1 IO_L38N_M3DQ3_3, M2 VCCO_3, M3 IO_L38P_M3DQ2_3, M4 IO_L1P_3, M5 IO_L64P_D8_2, M6 IO_L47N_2, M7 VCCO_2, M8 IO_L30P_GCLK1_D13_2, M9 IO_L15P_2, M10 IO_L14N_D12_2, M11 IO_L12P_D1_MISO2_2, N1 IO_L37N_M3DQ1_3, N2 IO_L37P_M3DQ0_3, N4 IO_L63P_2, N5 IO_L64N_D9_2, N6 IO_L48P_D7_2, N7 IO_L30N_GCLK0_USERCCLK_2, N8 IO_L29P_GCLK3_2, N9 IO_L15N_2, N10 IO_L13P_M1_2, N11 IO_L12N_D2_MISO3_2, N12 IO_L1P_CCLK_2, P1 IO_L2N_3, P2 IO_L2P_3, P3 IO_L65P_INIT_B_2, P4 VCCO_2, P5 IO_L49P_D3_2, P7 IO_L32P_GCLK29_2, P8 VCCO_2, P9 IO_L16P_2, P11 IO_L3P_D0_DIN_MISO_MISO1_2, P12 VCCO_2, P13 IO_L2P_CMPCLK_2, R3 IO_L65N_CSO_B_2, R4 IO_L63N_2, R5 IO_L49N_D4_2, R6 IO_L48N_RDWR_B_VREF_2, R7 IO_L32N_GCLK28_2, R8 IO_L29N_GCLK2_2, R9 IO_L16N_VREF_2, R10 IO_L13N_D10_2, R11 IO_L3N_MOSI_CSI_B_MISO0_2, R12 IO_L1N_M0_CMPMISO_2, R13 IO_L2N_CMPMOSI_2
part C pins: A14 TCK, D12 TDO, E10 TDI, E13 TMS, L10 CMPCS_B_2, L13 SUSPEND, R2 PROGRAM_B_2, R14 DONE_2
part D pins: A1 GND, A15 GND, B1 VCCAUX, B6 GND, B10 GND, C3 GND, C13 GND, E11 GND, E12 VCCAUX, F2 GND, F6 GND, F7 VCCAUX, F9 VCCINT, F14 GND, G6 VCCINT, G7 GND, G8 VCCINT, G9 GND, G10 VCCAUX, H7 VCCINT, H8 GND, H9 VCCINT, J6 VCCAUX, J7 GND, J8 VCCINT, J9 GND, J10 VCCINT, K2 GND, K6 GND, K7 VCCINT, K9 VCCAUX, K14 GND, L4 VCCAUX, L11 GND, M12 VCCAUX, N3 GND, N13 GND, P6 GND, P10 GND, R1 GND, R15 GND

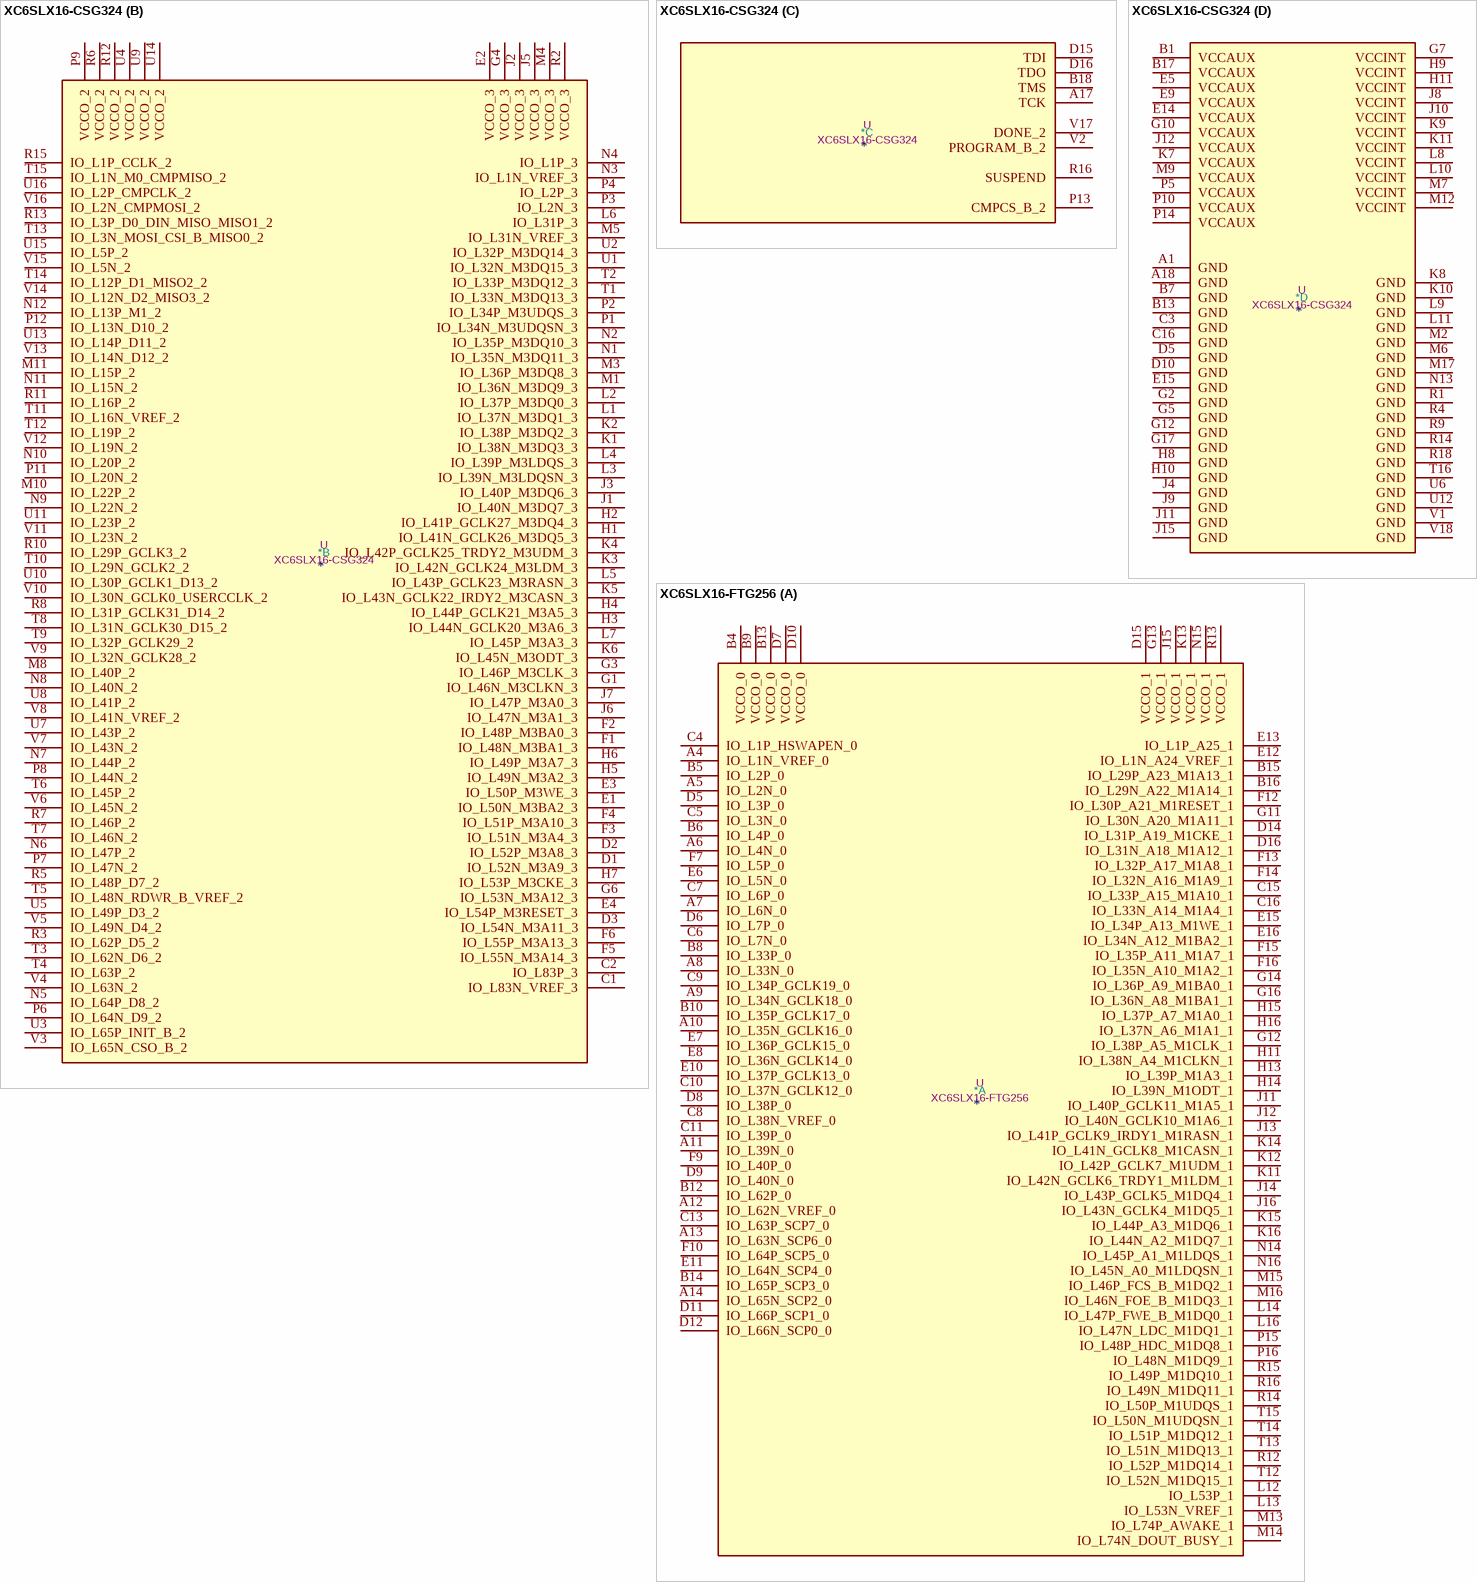
[diagram p8: symbols XC6SLX16-CSG324 to XC6SLX16-FTG256]

## XC6SLX16-CSG324
designator *  value XC6SLX16-CSG324  Reference: U
ki_keywords: FPGA; ki_description: Spartan 6 LX 16 XC6SLX16-CSG324
part A pins: A2 IO_L2N_0, A3 IO_L4N_0, A4 IO_L5N_0, A5 IO_L6N_0, A6 IO_L8N_VREF_0, A7 IO_L10N_0, A8 IO_L33N_0, A9 IO_L35N_GCLK16_0, A10 IO_L37N_GCLK12_0, A11 IO_L39N_0, A12 IO_L41N_0, A13 IO_L50N_0, A14 IO_L62N_VREF_0, A15 IO_L64N_SCP4_0, A16 IO_L66N_SCP0_0, B2 IO_L2P_0, B3 IO_L4P_0, B4 IO_L5P_0, B5 VCCO_0, B6 IO_L8P_0, B8 IO_L33P_0, B9 IO_L35P_GCLK17_0, B10 VCCO_0, B11 IO_L39P_0, B12 IO_L41P_0, B14 IO_L62P_0, B15 VCCO_0, B16 IO_L66P_SCP1_0, C4 IO_L1N_VREF_0, C5 IO_L6P_0, C6 IO_L3N_0, C7 IO_L10P_0, C8 IO_L11N_0, C9 IO_L34N_GCLK18_0, C10 IO_L37P_GCLK13_0, C11 IO_L36N_GCLK14_0, C12 IO_L47N_0, C13 IO_L50P_0, C14 IO_L65N_SCP2_0, C15 IO_L64P_SCP5_0, C17 IO_L29P_A23_M1A13_1, C18 IO_L29N_A22_M1A14_1, D4 IO_L1P_HSWAPEN_0, D6 IO_L3P_0, D7 VCCO_0, D8 IO_L11P_0, D9 IO_L34P_GCLK19_0, D11 IO_L36P_GCLK15_0, D12 IO_L47P_0, D13 VCCO_0, D14 IO_L65P_SCP3_0, D17 IO_L31P_A19_M1CKE_1, D18 IO_L31N_A18_M1A12_1, E6 IO_L7N_0, E7 IO_L9P_0, E8 IO_L9N_0, E10 VCCO_0, E11 IO_L42N_0, E12 IO_L51N_0, E13 IO_L63N_SCP6_0, E16 IO_L33P_A15_M1A10_1, E17 VCCO_1, E18 IO_L33N_A14_M1A4_1, F7 IO_L7P_0, F8 IO_L32N_0, F9 IO_L38N_VREF_0, F10 IO_L40N_0, F11 IO_L42P_0, F12 IO_L51P_0, F13 IO_L63P_SCP7_0, F14 IO_L30P_A21_M1RESET_1, F15 IO_L1P_A25_1, F16 IO_L1N_A24_VREF_1, F17 IO_L35P_A11_M1A7_1, F18 IO_L35N_A10_M1A2_1, G8 IO_L32P_0, G9 IO_L38P_0, G11 IO_L40P_0, G13 IO_L32N_A16_M1A9_1, G14 IO_L30N_A20_M1A11_1, G15 VCCO_1, G16 IO_L38P_A5_M1CLK_1, G18 IO_L38N_A4_M1CLKN_1, H12 IO_L32P_A17_M1A8_1, H13 IO_L36P_A9_M1BA0_1, H14 IO_L36N_A8_M1BA1_1, H15 IO_L37P_A7_M1A0_1, H16 IO_L37N_A6_M1A1_1, H17 IO_L43P_GCLK5_M1DQ4_1, H18 IO_L43N_GCLK4_M1DQ5_1, J13 IO_L39P_M1A3_1, J14 VCCO_1, J16 IO_L44P_A3_M1DQ6_1, J17 VCCO_1, J18 IO_L44N_A2_M1DQ7_1, K12 IO_L34P_A13_M1WE_1, K13 IO_L34N_A12_M1BA2_1, K14 IO_L39N_M1ODT_1, K15 IO_L41P_GCLK9_IRDY1_M1RASN_1, K16 IO_L41N_GCLK8_M1CASN_1, K17 IO_L45P_A1_M1LDQS_1, K18 IO_L45N_A0_M1LDQSN_1, L12 IO_L40P_GCLK11_M1A5_1, L13 IO_L40N_GCLK10_M1A6_1, L14 IO_L61P_1, L15 IO_L42P_GCLK7_M1UDM_1, L16 IO_L42N_GCLK6_TRDY1_M1LDM_1, L17 IO_L46P_FCS_B_M1DQ2_1, L18 IO_L46N_FOE_B_M1DQ3_1, M13 IO_L61N_1, M14 IO_L53P_1, M15 VCCO_1, M16 IO_L47P_FWE_B_M1DQ0_1, M18 IO_L47N_LDC_M1DQ1_1, N14 IO_L53N_VREF_1, N15 IO_L50P_M1UDQS_1, N16 IO_L50N_M1UDQSN_1, N17 IO_L48P_HDC_M1DQ8_1, N18 IO_L48N_M1DQ9_1, P15 IO_L74P_AWAKE_1, P16 IO_L74N_DOUT_BUSY_1, P17 IO_L49P_M1DQ10_1, P18 IO_L49N_M1DQ11_1, R17 VCCO_1, T17 IO_L51P_M1DQ12_1, T18 IO_L51N_M1DQ13_1, U17 IO_L52P_M1DQ14_1, U18 IO_L52N_M1DQ15_1
part B pins: C1 IO_L83N_VREF_3, C2 IO_L83P_3, D1 IO_L52N_M3A9_3, D2 IO_L52P_M3A8_3, D3 IO_L54N_M3A11_3, E1 IO_L50N_M3BA2_3, E2 VCCO_3, E3 IO_L50P_M3WE_3, E4 IO_L54P_M3RESET_3, F1 IO_L48N_M3BA1_3, F2 IO_L48P_M3BA0_3, F3 IO_L51N_M3A4_3, F4 IO_L51P_M3A10_3, F5 IO_L55N_M3A14_3, F6 IO_L55P_M3A13_3, G1 IO_L46N_M3CLKN_3, G3 IO_L46P_M3CLK_3, G4 VCCO_3, G6 IO_L53N_M3A12_3, H1 IO_L41N_GCLK26_M3DQ5_3, H2 IO_L41P_GCLK27_M3DQ4_3, H3 IO_L44N_GCLK20_M3A6_3, H4 IO_L44P_GCLK21_M3A5_3, H5 IO_L49N_M3A2_3, H6 IO_L49P_M3A7_3, H7 IO_L53P_M3CKE_3, J1 IO_L40N_M3DQ7_3, J2 VCCO_3, J3 IO_L40P_M3DQ6_3, J5 VCCO_3, J6 IO_L47N_M3A1_3, J7 IO_L47P_M3A0_3, K1 IO_L38N_M3DQ3_3, K2 IO_L38P_M3DQ2_3, K3 IO_L42N_GCLK24_M3LDM_3, K4 IO_L42P_GCLK25_TRDY2_M3UDM_3, K5 IO_L43N_GCLK22_IRDY2_M3CASN_3, K6 IO_L45N_M3ODT_3, L1 IO_L37N_M3DQ1_3, L2 IO_L37P_M3DQ0_3, L3 IO_L39N_M3LDQSN_3, L4 IO_L39P_M3LDQS_3, L5 IO_L43P_GCLK23_M3RASN_3, L6 IO_L31P_3, L7 IO_L45P_M3A3_3, M1 IO_L36N_M3DQ9_3, M3 IO_L36P_M3DQ8_3, M4 VCCO_3, M5 IO_L31N_VREF_3, M8 IO_L40P_2, M10 IO_L22P_2, M11 IO_L15P_2, N1 IO_L35N_M3DQ11_3, N2 IO_L35P_M3DQ10_3, N3 IO_L1N_VREF_3, N4 IO_L1P_3, N5 IO_L64P_D8_2, N6 IO_L47P_2, N7 IO_L44P_2, N8 IO_L40N_2, N9 IO_L22N_2, N10 IO_L20P_2, N11 IO_L15N_2, N12 IO_L13P_M1_2, P1 IO_L34N_M3UDQSN_3, P2 IO_L34P_M3UDQS_3, P3 IO_L2N_3, P4 IO_L2P_3, P6 IO_L64N_D9_2, P7 IO_L47N_2, P8 IO_L44N_2, P9 VCCO_2, P11 IO_L20N_2, P12 IO_L13N_D10_2, R2 VCCO_3, R3 IO_L62P_D5_2, R5 IO_L48P_D7_2, R6 VCCO_2, R7 IO_L46P_2, R8 IO_L31P_GCLK31_D14_2, R10 IO_L29P_GCLK3_2, R11 IO_L16P_2, R12 VCCO_2, R13 IO_L3P_D0_DIN_MISO_MISO1_2, R15 IO_L1P_CCLK_2, T1 IO_L33N_M3DQ13_3, T2 IO_L33P_M3DQ12_3, T3 IO_L62N_D6_2, T4 IO_L63P_2, T5 IO_L48N_RDWR_B_VREF_2, T6 IO_L45P_2, T7 IO_L46N_2, T8 IO_L31N_GCLK30_D15_2, T9 IO_L32P_GCLK29_2, T10 IO_L29N_GCLK2_2, T11 IO_L16N_VREF_2, T12 IO_L19P_2, T13 IO_L3N_MOSI_CSI_B_MISO0_2, T14 IO_L12P_D1_MISO2_2, T15 IO_L1N_M0_CMPMISO_2, U1 IO_L32N_M3DQ15_3, U2 IO_L32P_M3DQ14_3, U3 IO_L65P_INIT_B_2, U4 VCCO_2, U5 IO_L49P_D3_2, U7 IO_L43P_2, U8 IO_L41P_2, U9 VCCO_2, U10 IO_L30P_GCLK1_D13_2, U11 IO_L23P_2, U13 IO_L14P_D11_2, U14 VCCO_2, U15 IO_L5P_2, U16 IO_L2P_CMPCLK_2, V3 IO_L65N_CSO_B_2, V4 IO_L63N_2, V5 IO_L49N_D4_2, V6 IO_L45N_2, V7 IO_L43N_2, V8 IO_L41N_VREF_2, V9 IO_L32N_GCLK28_2, V10 IO_L30N_GCLK0_USERCCLK_2, V11 IO_L23N_2, V12 IO_L19N_2, V13 IO_L14N_D12_2, V14 IO_L12N_D2_MISO3_2, V15 IO_L5N_2, V16 IO_L2N_CMPMOSI_2
part C pins: A17 TCK, B18 TMS, D15 TDI, D16 TDO, P13 CMPCS_B_2, R16 SUSPEND, V2 PROGRAM_B_2, V17 DONE_2
part D pins: A1 GND, A18 GND, B1 VCCAUX, B7 GND, B13 GND, B17 VCCAUX, C3 GND, C16 GND, D5 GND, D10 GND, E5 VCCAUX, E9 VCCAUX, E14 VCCAUX, E15 GND, G2 GND, G5 GND, G7 VCCINT, G10 VCCAUX, G12 GND, G17 GND, H8 GND, H9 VCCINT, H10 GND, H11 VCCINT, J4 GND, J8 VCCINT, J9 GND, J10 VCCINT, J11 GND, J12 VCCAUX, J15 GND, K7 VCCAUX, K8 GND, K9 VCCINT, K10 GND, K11 VCCINT, L8 VCCINT, L9 GND, L10 VCCINT, L11 GND, M2 GND, M6 GND, M7 VCCINT, M9 VCCAUX, M12 VCCINT, M17 GND, N13 GND, P5 VCCAUX, P10 VCCAUX, P14 VCCAUX, R1 GND, R4 GND, R9 GND, R14 GND, R18 GND, T16 GND, U6 GND, U12 GND, V1 GND, V18 GND

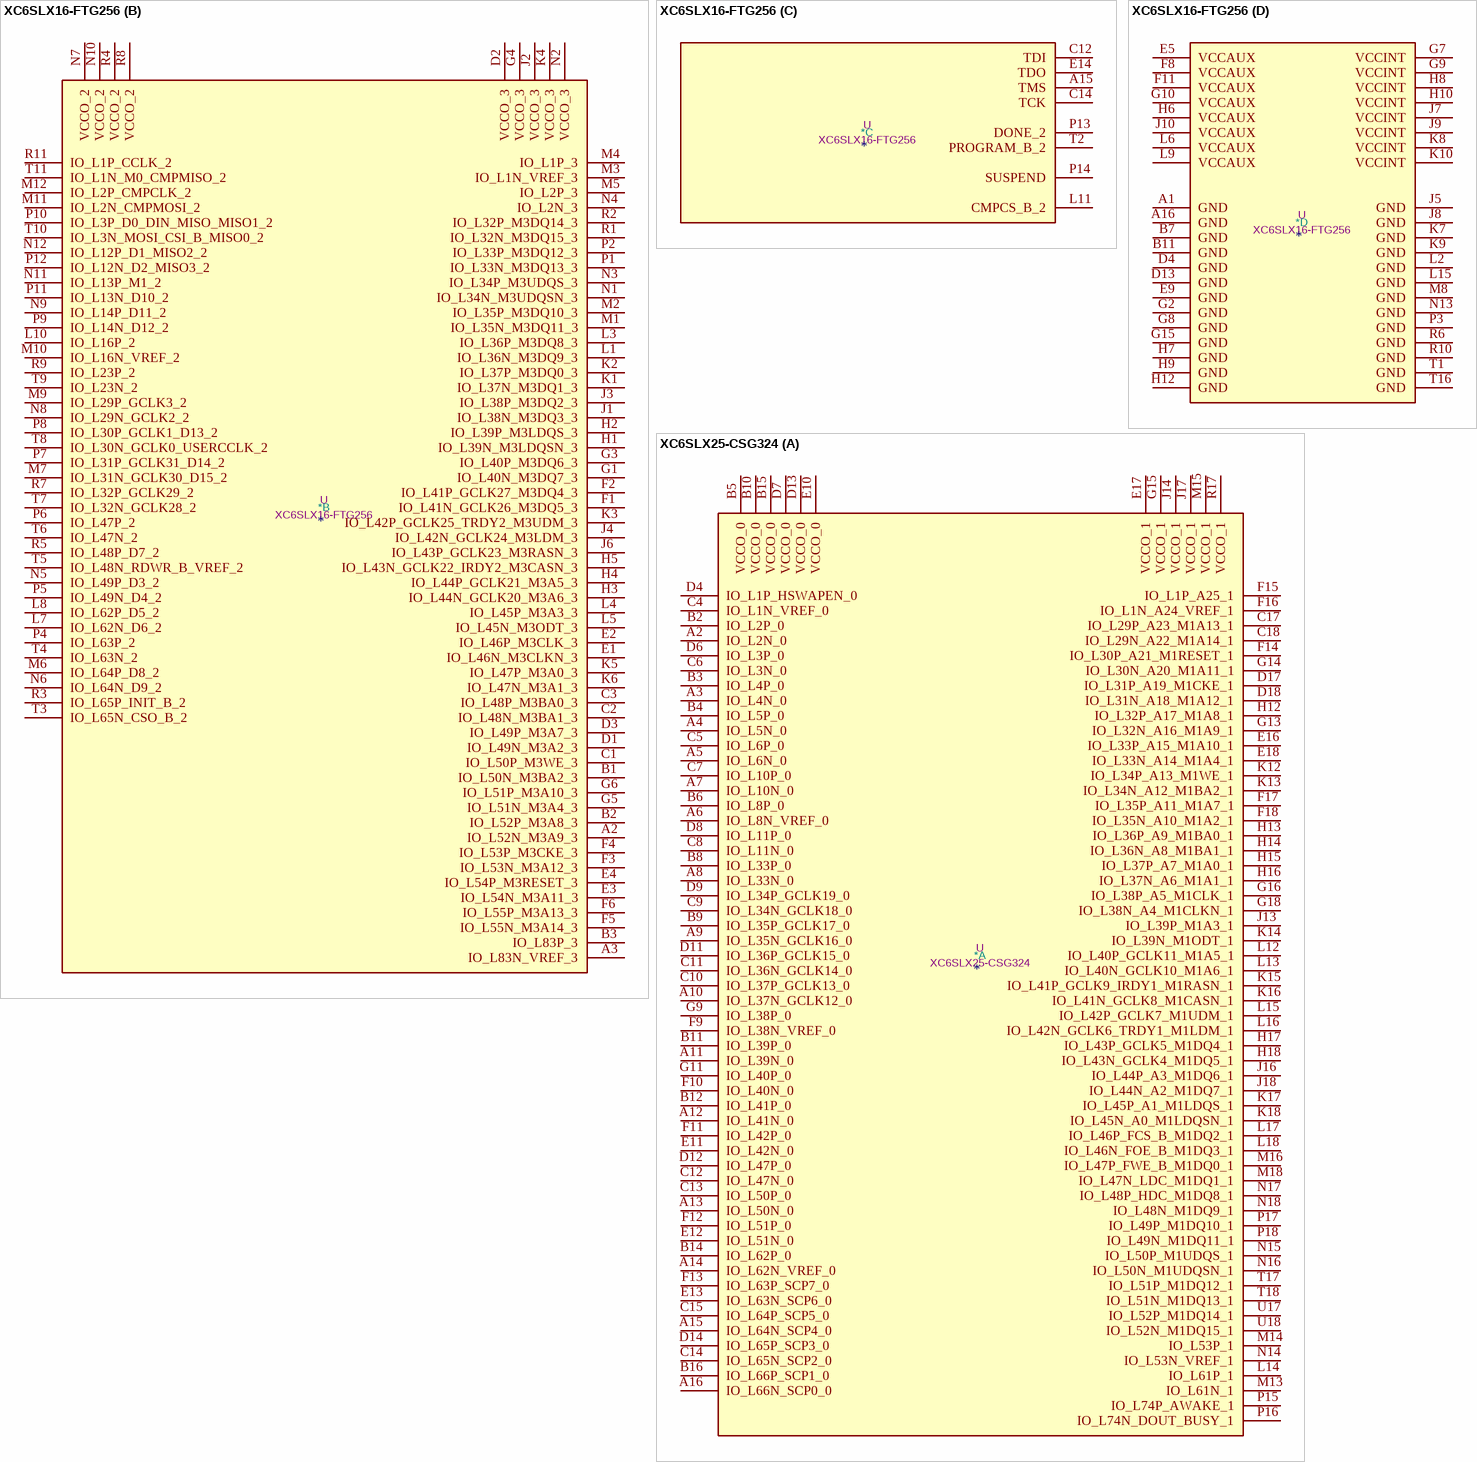
[diagram p9: symbols XC6SLX16-FTG256 to XC6SLX25-CSG324]

## XC6SLX16-FTG256
designator *  value XC6SLX16-FTG256  Reference: U
ki_keywords: FPGA; ki_description: Spartan 6 LX 16 XC6SLX16-FTG256
part A pins: A4 IO_L1N_VREF_0, A5 IO_L2N_0, A6 IO_L4N_0, A7 IO_L6N_0, A8 IO_L33N_0, A9 IO_L34N_GCLK18_0, A10 IO_L35N_GCLK16_0, A11 IO_L39N_0, A12 IO_L62N_VREF_0, A13 IO_L63N_SCP6_0, A14 IO_L65N_SCP2_0, B4 VCCO_0, B5 IO_L2P_0, B6 IO_L4P_0, B8 IO_L33P_0, B9 VCCO_0, B10 IO_L35P_GCLK17_0, B12 IO_L62P_0, B13 VCCO_0, B14 IO_L65P_SCP3_0, B15 IO_L29P_A23_M1A13_1, B16 IO_L29N_A22_M1A14_1, C4 IO_L1P_HSWAPEN_0, C5 IO_L3N_0, C6 IO_L7N_0, C7 IO_L6P_0, C8 IO_L38N_VREF_0, C9 IO_L34P_GCLK19_0, C10 IO_L37N_GCLK12_0, C11 IO_L39P_0, C13 IO_L63P_SCP7_0, C15 IO_L33P_A15_M1A10_1, C16 IO_L33N_A14_M1A4_1, D5 IO_L3P_0, D6 IO_L7P_0, D7 VCCO_0, D8 IO_L38P_0, D9 IO_L40N_0, D10 VCCO_0, D11 IO_L66P_SCP1_0, D12 IO_L66N_SCP0_0, D14 IO_L31P_A19_M1CKE_1, D15 VCCO_1, D16 IO_L31N_A18_M1A12_1, E6 IO_L5N_0, E7 IO_L36P_GCLK15_0, E8 IO_L36N_GCLK14_0, E10 IO_L37P_GCLK13_0, E11 IO_L64N_SCP4_0, E12 IO_L1N_A24_VREF_1, E13 IO_L1P_A25_1, E15 IO_L34P_A13_M1WE_1, E16 IO_L34N_A12_M1BA2_1, F7 IO_L5P_0, F9 IO_L40P_0, F10 IO_L64P_SCP5_0, F12 IO_L30P_A21_M1RESET_1, F13 IO_L32P_A17_M1A8_1, F14 IO_L32N_A16_M1A9_1, F15 IO_L35P_A11_M1A7_1, F16 IO_L35N_A10_M1A2_1, G11 IO_L30N_A20_M1A11_1, G12 IO_L38P_A5_M1CLK_1, G13 VCCO_1, G14 IO_L36P_A9_M1BA0_1, G16 IO_L36N_A8_M1BA1_1, H11 IO_L38N_A4_M1CLKN_1, H13 IO_L39P_M1A3_1, H14 IO_L39N_M1ODT_1, H15 IO_L37P_A7_M1A0_1, H16 IO_L37N_A6_M1A1_1, J11 IO_L40P_GCLK11_M1A5_1, J12 IO_L40N_GCLK10_M1A6_1, J13 IO_L41P_GCLK9_IRDY1_M1RASN_1, J14 IO_L43P_GCLK5_M1DQ4_1, J15 VCCO_1, J16 IO_L43N_GCLK4_M1DQ5_1, K11 IO_L42N_GCLK6_TRDY1_M1LDM_1, K12 IO_L42P_GCLK7_M1UDM_1, K13 VCCO_1, K14 IO_L41N_GCLK8_M1CASN_1, K15 IO_L44P_A3_M1DQ6_1, K16 IO_L44N_A2_M1DQ7_1, L12 IO_L53P_1, L13 IO_L53N_VREF_1, L14 IO_L47P_FWE_B_M1DQ0_1, L16 IO_L47N_LDC_M1DQ1_1, M13 IO_L74P_AWAKE_1, M14 IO_L74N_DOUT_BUSY_1, M15 IO_L46P_FCS_B_M1DQ2_1, M16 IO_L46N_FOE_B_M1DQ3_1, N14 IO_L45P_A1_M1LDQS_1, N15 VCCO_1, N16 IO_L45N_A0_M1LDQSN_1, P15 IO_L48P_HDC_M1DQ8_1, P16 IO_L48N_M1DQ9_1, R12 IO_L52P_M1DQ14_1, R13 VCCO_1, R14 IO_L50P_M1UDQS_1, R15 IO_L49P_M1DQ10_1, R16 IO_L49N_M1DQ11_1, T12 IO_L52N_M1DQ15_1, T13 IO_L51N_M1DQ13_1, T14 IO_L51P_M1DQ12_1, T15 IO_L50N_M1UDQSN_1
part B pins: A2 IO_L52N_M3A9_3, A3 IO_L83N_VREF_3, B1 IO_L50N_M3BA2_3, B2 IO_L52P_M3A8_3, B3 IO_L83P_3, C1 IO_L50P_M3WE_3, C2 IO_L48N_M3BA1_3, C3 IO_L48P_M3BA0_3, D1 IO_L49N_M3A2_3, D2 VCCO_3, D3 IO_L49P_M3A7_3, E1 IO_L46N_M3CLKN_3, E2 IO_L46P_M3CLK_3, E3 IO_L54N_M3A11_3, E4 IO_L54P_M3RESET_3, F1 IO_L41N_GCLK26_M3DQ5_3, F2 IO_L41P_GCLK27_M3DQ4_3, F3 IO_L53N_M3A12_3, F4 IO_L53P_M3CKE_3, F5 IO_L55N_M3A14_3, F6 IO_L55P_M3A13_3, G1 IO_L40N_M3DQ7_3, G3 IO_L40P_M3DQ6_3, G4 VCCO_3, G5 IO_L51N_M3A4_3, G6 IO_L51P_M3A10_3, H1 IO_L39N_M3LDQSN_3, H2 IO_L39P_M3LDQS_3, H3 IO_L44N_GCLK20_M3A6_3, H4 IO_L44P_GCLK21_M3A5_3, H5 IO_L43N_GCLK22_IRDY2_M3CASN_3, J1 IO_L38N_M3DQ3_3, J2 VCCO_3, J3 IO_L38P_M3DQ2_3, J4 IO_L42N_GCLK24_M3LDM_3, J6 IO_L43P_GCLK23_M3RASN_3, K1 IO_L37N_M3DQ1_3, K2 IO_L37P_M3DQ0_3, K3 IO_L42P_GCLK25_TRDY2_M3UDM_3, K4 VCCO_3, K5 IO_L47P_M3A0_3, K6 IO_L47N_M3A1_3, L1 IO_L36N_M3DQ9_3, L3 IO_L36P_M3DQ8_3, L4 IO_L45P_M3A3_3, L5 IO_L45N_M3ODT_3, L7 IO_L62N_D6_2, L8 IO_L62P_D5_2, L10 IO_L16P_2, M1 IO_L35N_M3DQ11_3, M2 IO_L35P_M3DQ10_3, M3 IO_L1N_VREF_3, M4 IO_L1P_3, M5 IO_L2P_3, M6 IO_L64P_D8_2, M7 IO_L31N_GCLK30_D15_2, M9 IO_L29P_GCLK3_2, M10 IO_L16N_VREF_2, M11 IO_L2N_CMPMOSI_2, M12 IO_L2P_CMPCLK_2, N1 IO_L34N_M3UDQSN_3, N2 VCCO_3, N3 IO_L34P_M3UDQS_3, N4 IO_L2N_3, N5 IO_L49P_D3_2, N6 IO_L64N_D9_2, N7 VCCO_2, N8 IO_L29N_GCLK2_2, N9 IO_L14P_D11_2, N10 VCCO_2, N11 IO_L13P_M1_2, N12 IO_L12P_D1_MISO2_2, P1 IO_L33N_M3DQ13_3, P2 IO_L33P_M3DQ12_3, P4 IO_L63P_2, P5 IO_L49N_D4_2, P6 IO_L47P_2, P7 IO_L31P_GCLK31_D14_2, P8 IO_L30P_GCLK1_D13_2, P9 IO_L14N_D12_2, P10 IO_L3P_D0_DIN_MISO_MISO1_2, P11 IO_L13N_D10_2, P12 IO_L12N_D2_MISO3_2, R1 IO_L32N_M3DQ15_3, R2 IO_L32P_M3DQ14_3, R3 IO_L65P_INIT_B_2, R4 VCCO_2, R5 IO_L48P_D7_2, R7 IO_L32P_GCLK29_2, R8 VCCO_2, R9 IO_L23P_2, R11 IO_L1P_CCLK_2, T3 IO_L65N_CSO_B_2, T4 IO_L63N_2, T5 IO_L48N_RDWR_B_VREF_2, T6 IO_L47N_2, T7 IO_L32N_GCLK28_2, T8 IO_L30N_GCLK0_USERCCLK_2, T9 IO_L23N_2, T10 IO_L3N_MOSI_CSI_B_MISO0_2, T11 IO_L1N_M0_CMPMISO_2
part C pins: A15 TMS, C12 TDI, C14 TCK, E14 TDO, L11 CMPCS_B_2, P13 DONE_2, P14 SUSPEND, T2 PROGRAM_B_2
part D pins: A1 GND, A16 GND, B7 GND, B11 GND, D4 GND, D13 GND, E5 VCCAUX, E9 GND, F8 VCCAUX, F11 VCCAUX, G2 GND, G7 VCCINT, G8 GND, G9 VCCINT, G10 VCCAUX, G15 GND, H6 VCCAUX, H7 GND, H8 VCCINT, H9 GND, H10 VCCINT, H12 GND, J5 GND, J7 VCCINT, J8 GND, J9 VCCINT, J10 VCCAUX, K7 GND, K8 VCCINT, K9 GND, K10 VCCINT, L2 GND, L6 VCCAUX, L9 VCCAUX, L15 GND, M8 GND, N13 GND, P3 GND, R6 GND, R10 GND, T1 GND, T16 GND

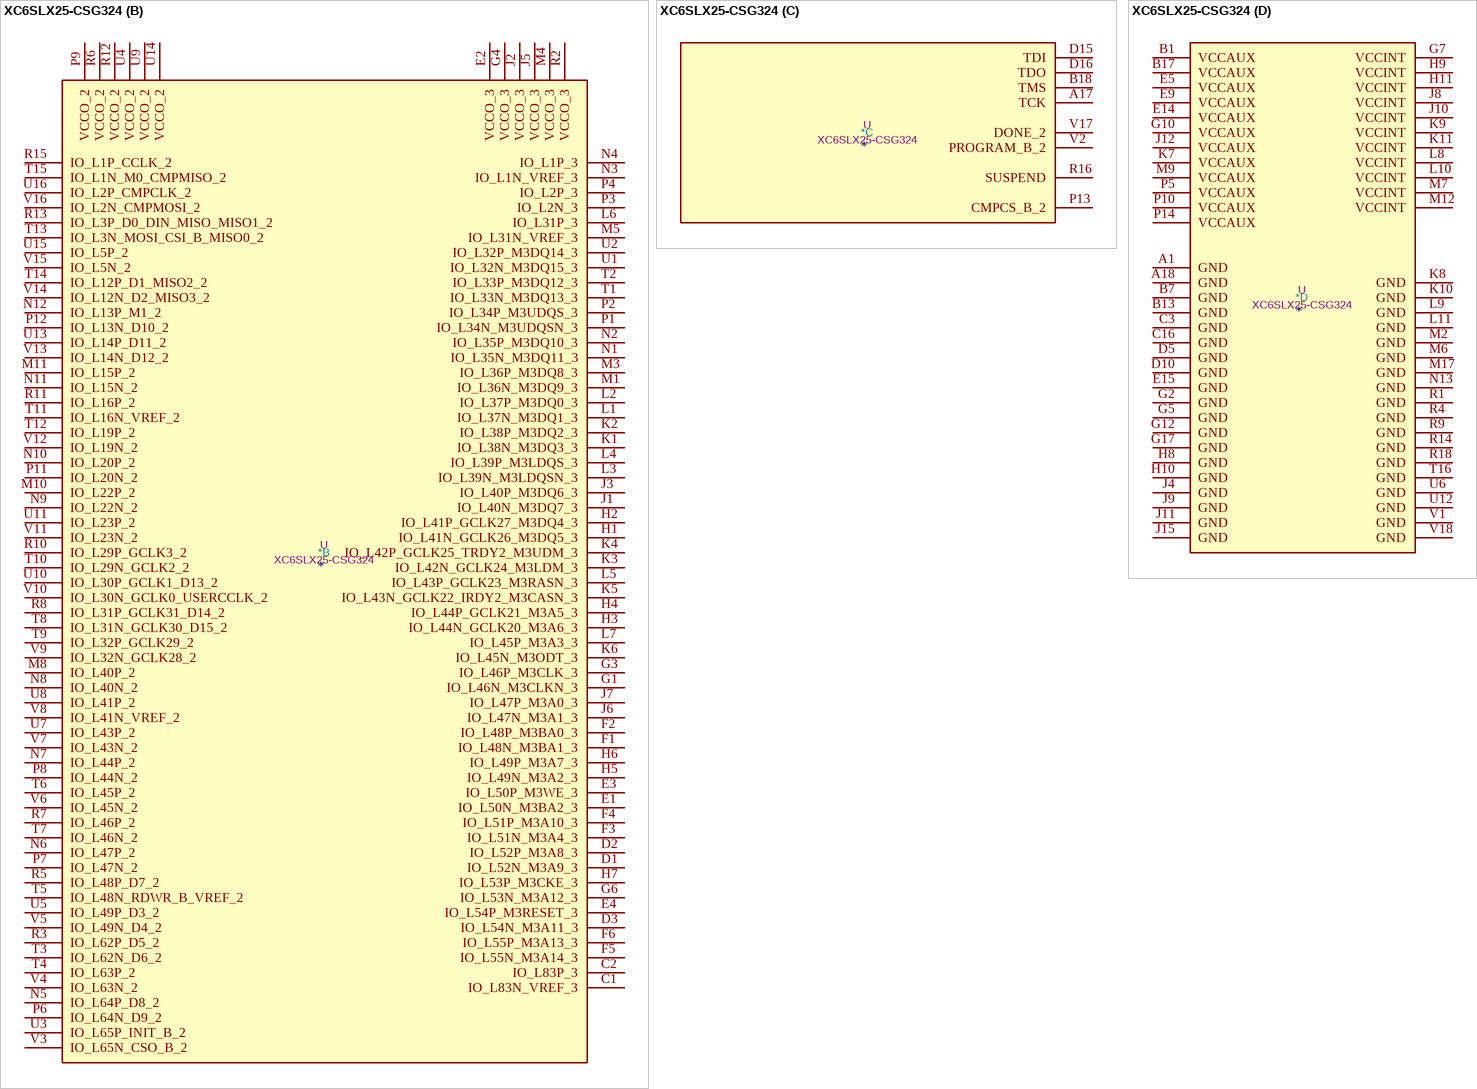
[diagram p10: symbol XC6SLX25-CSG324]